# Altium schematic symbol library Synthiam.SchLib: 172 symbols (part 1 of 2)
Pins are listed as number, name and electrical type; pins without a type are passive.

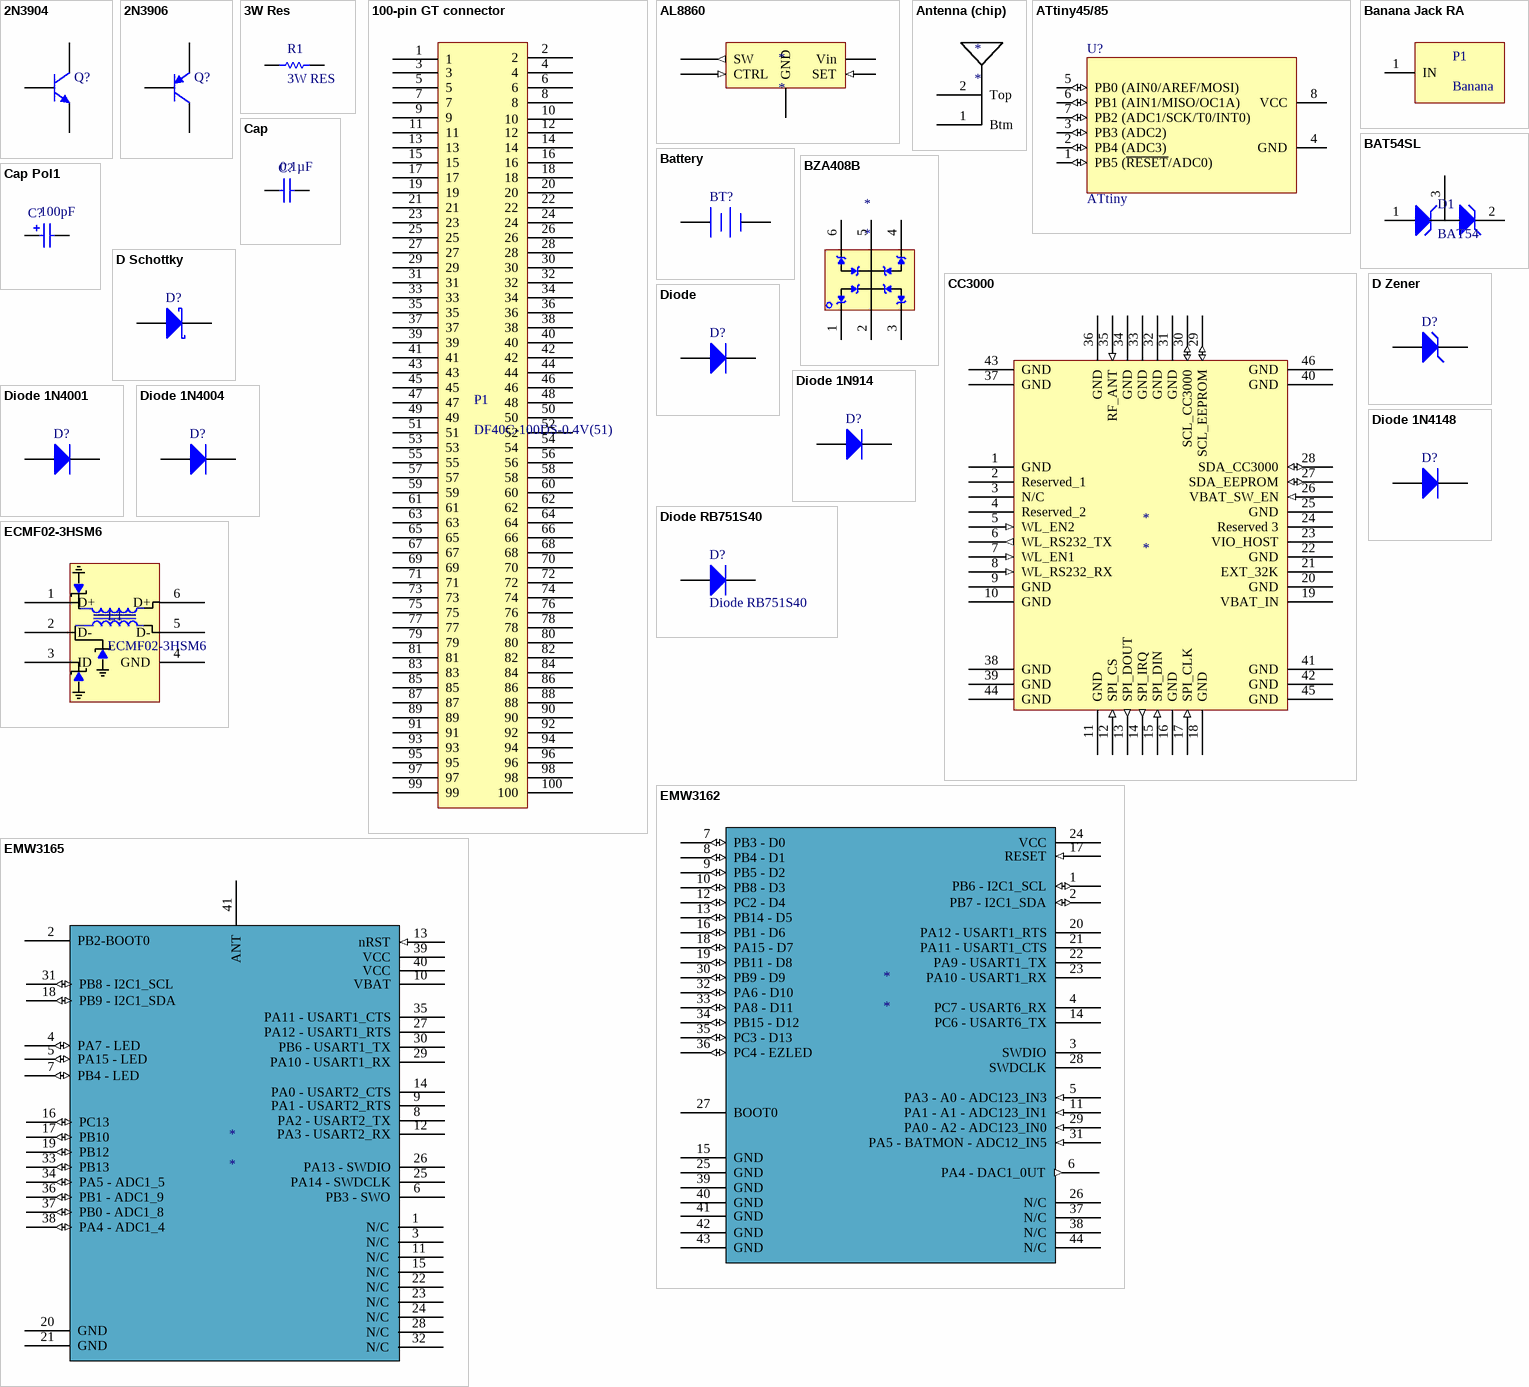
[diagram p0: symbols 2N3904 to EMW3165]

## 2N3904
designator Q?
NPN General Purpose Amplifier; Published: 8-Jun-2000; LatestRevisionDate: 15-Jan-2003; LatestRevisionNote: PCB Footprint 'BCY-W3/D4.7' replaced; DatasheetVersion: 1997; PackageVersion: Sep-1998; PackageReference: TO-92A; Publisher: Altium Limited; Code_JEDEC: TO-92A; ComponentLink1Description: Manufacturer Link; ComponentLink1URL: http://www.fairchildsemi.com/; ComponentLink2Description: Datasheet; ComponentLink2URL: http://www.fairchildsemi.com/ds/2N%2F2N3904.pdf
simulation model 2N3904 (NPN)
signal-integrity model 2N3904
footprint MMBT3904
footprint TO92 - 2N3904 (Footprint not found)
pins: 1 E, 2 B, 3 C

## 2N3906
designator Q?
PNP General Purpose Amplifier; Published: 8-Jun-2000; LatestRevisionDate: 15-Jan-2003; LatestRevisionNote: PCB Footprint 'BCY-W3/D4.7' replaced; DatasheetVersion: 1997; PackageVersion: Sep-1998; PackageReference: TO-92A; Publisher: Altium Limited; Code_JEDEC: TO-92A; ComponentLink1Description: Manufacturer Link; ComponentLink1URL: http://www.fairchildsemi.com/; ComponentLink2Description: Datasheet; ComponentLink2URL: http://www.fairchildsemi.com/ds/2N%2F2N3906.pdf
simulation model 2N3906 (PNP)
signal-integrity model 2N3906
footprint TO92 - 2N3906
pins: 1 E, 2 B, 3 C

## 3W Res
designator R1, comment 3W RES
footprint 3W RES
pins: 1, 2

## 100-pin GT connector
designator P1, comment DF40C-100DS-0.4V(51)
footprint 100-pin GT Connector
pins: 1, 2, 3, 4, 5, 6, 7, 8, 9, 10, 11, 12, 13, 14, 15, 16, 17, 18, 19, 20, 21, 22, 23, 24, 25, 26, 27, 28, 29, 30, 31, 32, 33, 34, 35, 36, 37, 38, 39, 40, 41, 42, 43, 44, 45, 46, 47, 48, 49, 50, 51, 52, 53, 54, 55, 56, 57, 58, 59, 60, 61, 62, 63, 64, 65, 66, 67, 68, 69, 70, 71, 72, 73, 74, 75, 76, 77, 78, 79, 80, 81, 82, 83, 84, 85, 86, 87, 88, 89, 90, 91, 92, 93, 94, 95, 96, 97, 98, 99, 100

## AL8860
designator *
footprint SOT-25 new
pins: 1 SET (in), 2 Vin (power), 3 GND (power), 4 CTRL (in), 5 SW (out)

## Antenna (chip)
designator *
footprint Antenna (Chip)
pins: 1 Btm, 2 Top

## ATtiny45/85
designator U?, comment ATtiny
8-Bit AVR Microcontroller with 1K Byte of Flash Memory; Published: 17-Sep-2003; DatasheetVersion: 1187E-AVR-06/02; PackageVersion: revB, Jan-2002; PackageReference: 8P3; Publisher: Altium Limited; PackageDescription: 8-Lead, 0.300" Wide Body, Plastic Dual In-Line Package (PDIP); Supplier 1: Digi-Key; Supplier Part Number 1: ATTINY15L-1PC-ND; Supplier 2: Mouser; Supplier Part Number 2: 556-ATTINY15L1PC; Code_JEDEC: MS-001-BA; ComponentLink1Description: Datasheet; ComponentLink1URL: http://www.atmel.com/dyn/resources/prod_documents/doc1187.pdf; ComponentLink2Description: Atmel.com Home; ComponentLink2URL: http://www.atmel.com
footprint DIP8
footprint SOIC-8
pins: 1 PB5 (~{RESET}/ADC0) (io), 2 PB4 (ADC3) (io), 3 PB3 (ADC2) (io), 4 GND (power), 5 PB0 (AIN0/AREF/MOSI) (io), 6 PB1 (AIN1/MISO/OC1A) (io), 7 PB2 (ADC1/SCK/T0/INT0) (io), 8 VCC (power)

## Banana Jack RA
designator P1, comment Banana
footprint Banana Jack RA
pins: 1 IN

## BAT54SL
designator D1, comment BAT54
footprint SOT-23 ALT
pins: 1, 2, 3

## Battery
designator BT?
Multicell Battery; Published: 24-Mar-1999; LatestRevisionDate: 17-Jul-2002; LatestRevisionNote: Re-released for DXP Platform.; PackageReference: BAT-2; Publisher: Altium Limited
footprint BAT-2 (Multicell Battery; 2 Leads)
pins: 1 +, 2 -

## BZA408B
designator *
footprint SOT-457
pins: 1, 2, 3, 4, 5, 6

## Cap
designator C?  value 0.1µF
Capacitor; Published: 8-Jun-2000; LatestRevisionDate: 17-Jul-2002; LatestRevisionNote: Re-released for DXP Platform.; PackageReference: RAD-0.3; Publisher: Altium Limited
footprint RAD-0.3 (Radial Cap, Thru-Hole; 2 Leads; 0.3 in Pin Spacing)
simulation model CAP (Capacitor)
signal-integrity model Cap
footprint 0805
footprint 0805 TIGHT
pins: 1, 2

## Cap Pol1
designator C?  value 100pF
Polarized Capacitor (Radial); Published: 8-Jun-2000; LatestRevisionDate: 17-Jul-2002; LatestRevisionNote: Re-released for DXP Platform.; PackageReference: RB7.6-15; Publisher: Altium Limited
footprint RB7.6-15 (Polarized Capacitor (Radial); 2 Leads)
simulation model CAP (Capacitor)
signal-integrity model Cap Pol
footprint Cap Alum (330uF or 220uF 6.3V SMD Aluminum Cap)
footprint Cap Alum LRG (1000uF or 1500uF SMD Aluminum Capacitor)
pins: 1, 2
1 alternate drawing of the same symbol

## CC3000
designator *
footprint CC3000 (Texas Instruments WiFi Module)
pins: 1 GND (power), 2 Reserved_1, 3 N/C, 4 Reserved_2 (power), 5 WL_EN2 (in), 6 WL_RS232_TX (out), 7 WL_EN1 (in), 8 WL_RS232_RX (in), 9 GND (power), 10 GND (power), 11 GND, 12 SPI_CS (in), 13 SPI_DOUT (out), 14 SPI_IRQ (out), 15 SPI_DIN (in), 16 GND, 17 SPI_CLK (in), 18 GND, 19 VBAT_IN (power), 20 GND, 21 EXT_32K, 22 GND (power), 23 VIO_HOST (power), 24 Reserved 3, 25 GND (power), 26 VBAT_SW_EN (in), 27 SDA_EEPROM (io), 28 SDA_CC3000 (io), 29 SCL_EEPROM (io), 30 SCL_CC3000 (io), 31 GND (power), 32 GND (power), 33 GND (power), 34 GND, 35 RF_ANT (in), 36 GND, 37 GND (power), 38 GND (power), 39 GND (power), 40 GND (power), 41 GND (power), 42 GND (power), 43 GND (power), 44 GND (power), 45 GND (power), 46 GND (power)

## D Schottky
designator D?
Schottky Diode; Published: 8-Jun-2000; LatestRevisionDate: 17-Jul-2002; LatestRevisionNote: Re-released for DXP Platform.; PackageReference: SMB; Publisher: Altium Limited; Code_JEDEC: DO-214-AA
footprint SMB (DO-214-AA/SMB; 2 C-Bend Leads; Body 5.3 x 3.6 mm, inc. leads (LxW))
simulation model SKYDIODE (Diode)
signal-integrity model D Schottky
pins: 1 A, 2 K

## D Zener
designator D?
Zener Diode; Published: 8-Jun-2000; LatestRevisionDate: 17-Jul-2002; LatestRevisionNote: Re-released for DXP Platform.; PackageReference: DIODE-0.7; Publisher: Altium Limited
footprint DIODE0.7
simulation model ZENER (Diode)
signal-integrity model D Zener
pins: 1 A, 2 K

## Diode
designator D?
Default Diode; Published: 8-Jun-2000; LatestRevisionDate: 17-Jul-2002; LatestRevisionNote: Re-released for DXP Platform.; PackageVersion: Sep-1996; PackageReference: SMC; Publisher: Altium Limited; Code_JEDEC: DO-214-AB
footprint SMC (DO-214-AB/SMC; 2 C-Bend Leads; Body 7.9 x 5.9 mm, inc. leads (LxW))
simulation model DIODE (Diode)
signal-integrity model Diode
pins: 1 A, 2 K

## Diode 1N914
designator D?
High Conductance Fast Diode; Published: 8-Jun-2000; LatestRevisionDate: 17-Jul-2002; LatestRevisionNote: Re-released for DXP Platform.; DatasheetVersion: 1997; PackageReference: DO-35; Publisher: Altium Limited; Code_JEDEC: DO-204-AH; ComponentLink1Description: Manufacturer Link; ComponentLink1URL: http://www.fairchildsemi.com/; ComponentLink2Description: Datasheet; ComponentLink2URL: http://www.fairchildsemi.com/ds/1N%2F1N4448.pdf
simulation model 1N914 (DIODE)
signal-integrity model 1N914
footprint DO-35 (Diode, Axial; Body 3.8 x 1.9 mm (LxDia. max), Lead Dia. 0.53 mm (max))
pins: 1 A, 2 K

## Diode 1N4001
designator D?
1 Amp General Purpose Rectifier; Published: 8-Jun-2000; LatestRevisionDate: 17-Jul-2002; LatestRevisionNote: Re-released for DXP Platform.; DatasheetVersion: 1998; PackageVersion: Aug-1999; PackageReference: DO-41; Publisher: Altium Limited; Code_JEDEC: DO-204-AL; ComponentLink1Description: Manufacturer Link; ComponentLink1URL: http://www.fairchildsemi.com/; ComponentLink2Description: Datasheet; ComponentLink2URL: http://www.fairchildsemi.com/ds/1N%2F1N4001.pdf
simulation model 1N4001 (DIODE)
signal-integrity model 1N4001
footprint DO-41 (Diode, Axial; Body 5.2 x 2.7 mm (LxDia. max), Lead Dia. 0.86 mm (max))
pins: 1 A, 2 K

## Diode 1N4004
designator D?
1 Amp General Purpose Rectifier; Published: 8-Jun-2000; LatestRevisionDate: 17-Jul-2002; LatestRevisionNote: Re-released for DXP Platform.; DatasheetVersion: 1998; PackageVersion: Aug-1999; PackageReference: DO-41; Publisher: Altium Limited; Code_JEDEC: DO-204-AL; ComponentLink1Description: Manufacturer Link; ComponentLink1URL: http://www.fairchildsemi.com/; ComponentLink2Description: Datasheet; ComponentLink2URL: http://www.fairchildsemi.com/ds/1N%2F1N4001.pdf
simulation model 1N4004 (DIODE)
signal-integrity model 1N4004
footprint DO-41 (Diode, Axial; Body 5.2 x 2.7 mm (LxDia. max), Lead Dia. 0.86 mm (max))
pins: 1 A, 2 K

## Diode 1N4148
designator D?
High Conductance Fast Diode; Published: 8-Jun-2000; LatestRevisionDate: 17-Jul-2002; LatestRevisionNote: Re-released for DXP Platform.; DatasheetVersion: 1997; PackageReference: DO-35; Publisher: Altium Limited; Code_JEDEC: DO-204-AH; ComponentLink1Description: Manufacturer Link; ComponentLink1URL: http://www.fairchildsemi.com/; ComponentLink2Description: Datasheet; ComponentLink2URL: http://www.fairchildsemi.com/ds/1N%2F1N4148.pdf
simulation model 1N4148 (DIODE)
signal-integrity model 1N4148
footprint DO-35 (Diode, Axial; Body 3.8 x 1.9 mm (LxDia. max), Lead Dia. 0.53 mm (max))
pins: 1 A, 2 K

## Diode RB751S40
designator D?
Schottky Barrier Diode; Published: 8-Jun-2000; DatasheetVersion: 1997; PackageReference: SOD-523F; Publisher: Altium Limited; ComponentLink1Description: Manufacturer Link; ComponentLink1URL: http://www.fairchildsemi.com/; ComponentLink2Description: Datasheet; ComponentLink2URL: http://www.fairchildsemi.com/ds/RB%2FRB751S40.pdf
signal-integrity model 1N4148
footprint SOD523F (Diode)
pins: 1 A, 2 K

## ECMF02-3HSM6
designator L1
footprint ECMF02-3HSM6
pins: 1 D+, 2 D-, 3 ID, 4 GND, 5 D-, 6 D+

## EMW3162
designator *
footprint EMW3162
pins: 1 PB6 - I2C1_SCL (io), 2 PB7 - I2C1_SDA (io), 3 SWDIO, 4 PC7 - USART6_RX, 5 PA3 - A0 - ADC123_IN3 (in), 6 PA4 - DAC1_0UT (out), 7 PB3 - D0 (io), 8 PB4 - D1 (io), 9 PB5 - D2 (io), 10 PB8 - D3 (io), 11 PA1 - A1 - ADC123_IN1 (in), 12 PC2 - D4 (io), 13 PB14 - D5 (io), 14 PC6 - USART6_TX, 15 GND (power), 16 PB1 - D6 (io), 17 RESET (in), 18 PA15 - D7 (io), 19 PB11 - D8 (io), 20 PA12 - USART1_RTS, 21 PA11 - USART1_CTS, 22 PA9 - USART1_TX, 23 PA10 - USART1_RX, 24 VCC (power), 25 GND (power), 26 N/C, 27 BOOT0, 28 SWDCLK, 29 PA0 - A2 - ADC123_IN0 (in), 30 PB9 - D9 (io), 31 PA5 - BATMON - ADC12_IN5 (in), 32 PA6 - D10 (io), 33 PA8 - D11 (io), 34 PB15 - D12 (io), 35 PC3 - D13 (io), 36 PC4 - EZLED (io), 37 N/C, 38 N/C, 39 GND (power), 40 GND (power), 41 GND (power), 42 GND (power), 43 GND (power), 44 N/C

## EMW3165
designator *
footprint EMW3165
pins: 1 N/C, 2 PB2-BOOT0, 3 N/C, 4 PA7 - LED (io), 5 PA15 - LED (io), 6 PB3 - SWO, 7 PB4 - LED (io), 8 PA2 - USART2_TX, 9 PA1 - USART2_RTS, 10 VBAT (power), 11 N/C, 12 PA3 - USART2_RX, 13 nRST (in), 14 PA0 - USART2_CTS, 15 N/C, 16 PC13 (io), 17 PB10 (io), 18 PB9 - I2C1_SDA (io), 19 PB12 (io), 20 GND (power), 21 GND (power), 22 N/C (power), 23 N/C (power), 24 N/C (power), 25 PA14 - SWDCLK, 26 PA13 - SWDIO, 27 PA12 - USART1_RTS, 28 N/C (power), 29 PA10 - USART1_RX, 30 PB6 - USART1_TX, 31 PB8 - I2C1_SCL (io), 32 N/C (power), 33 PB13 (io), 34 PA5 - ADC1_5 (io), 35 PA11 - USART1_CTS, 36 PB1 - ADC1_9 (io), 37 PB0 - ADC1_8 (io), 38 PA4 - ADC1_4 (io), 39 VCC (power), 40 VCC (power), 41 ANT

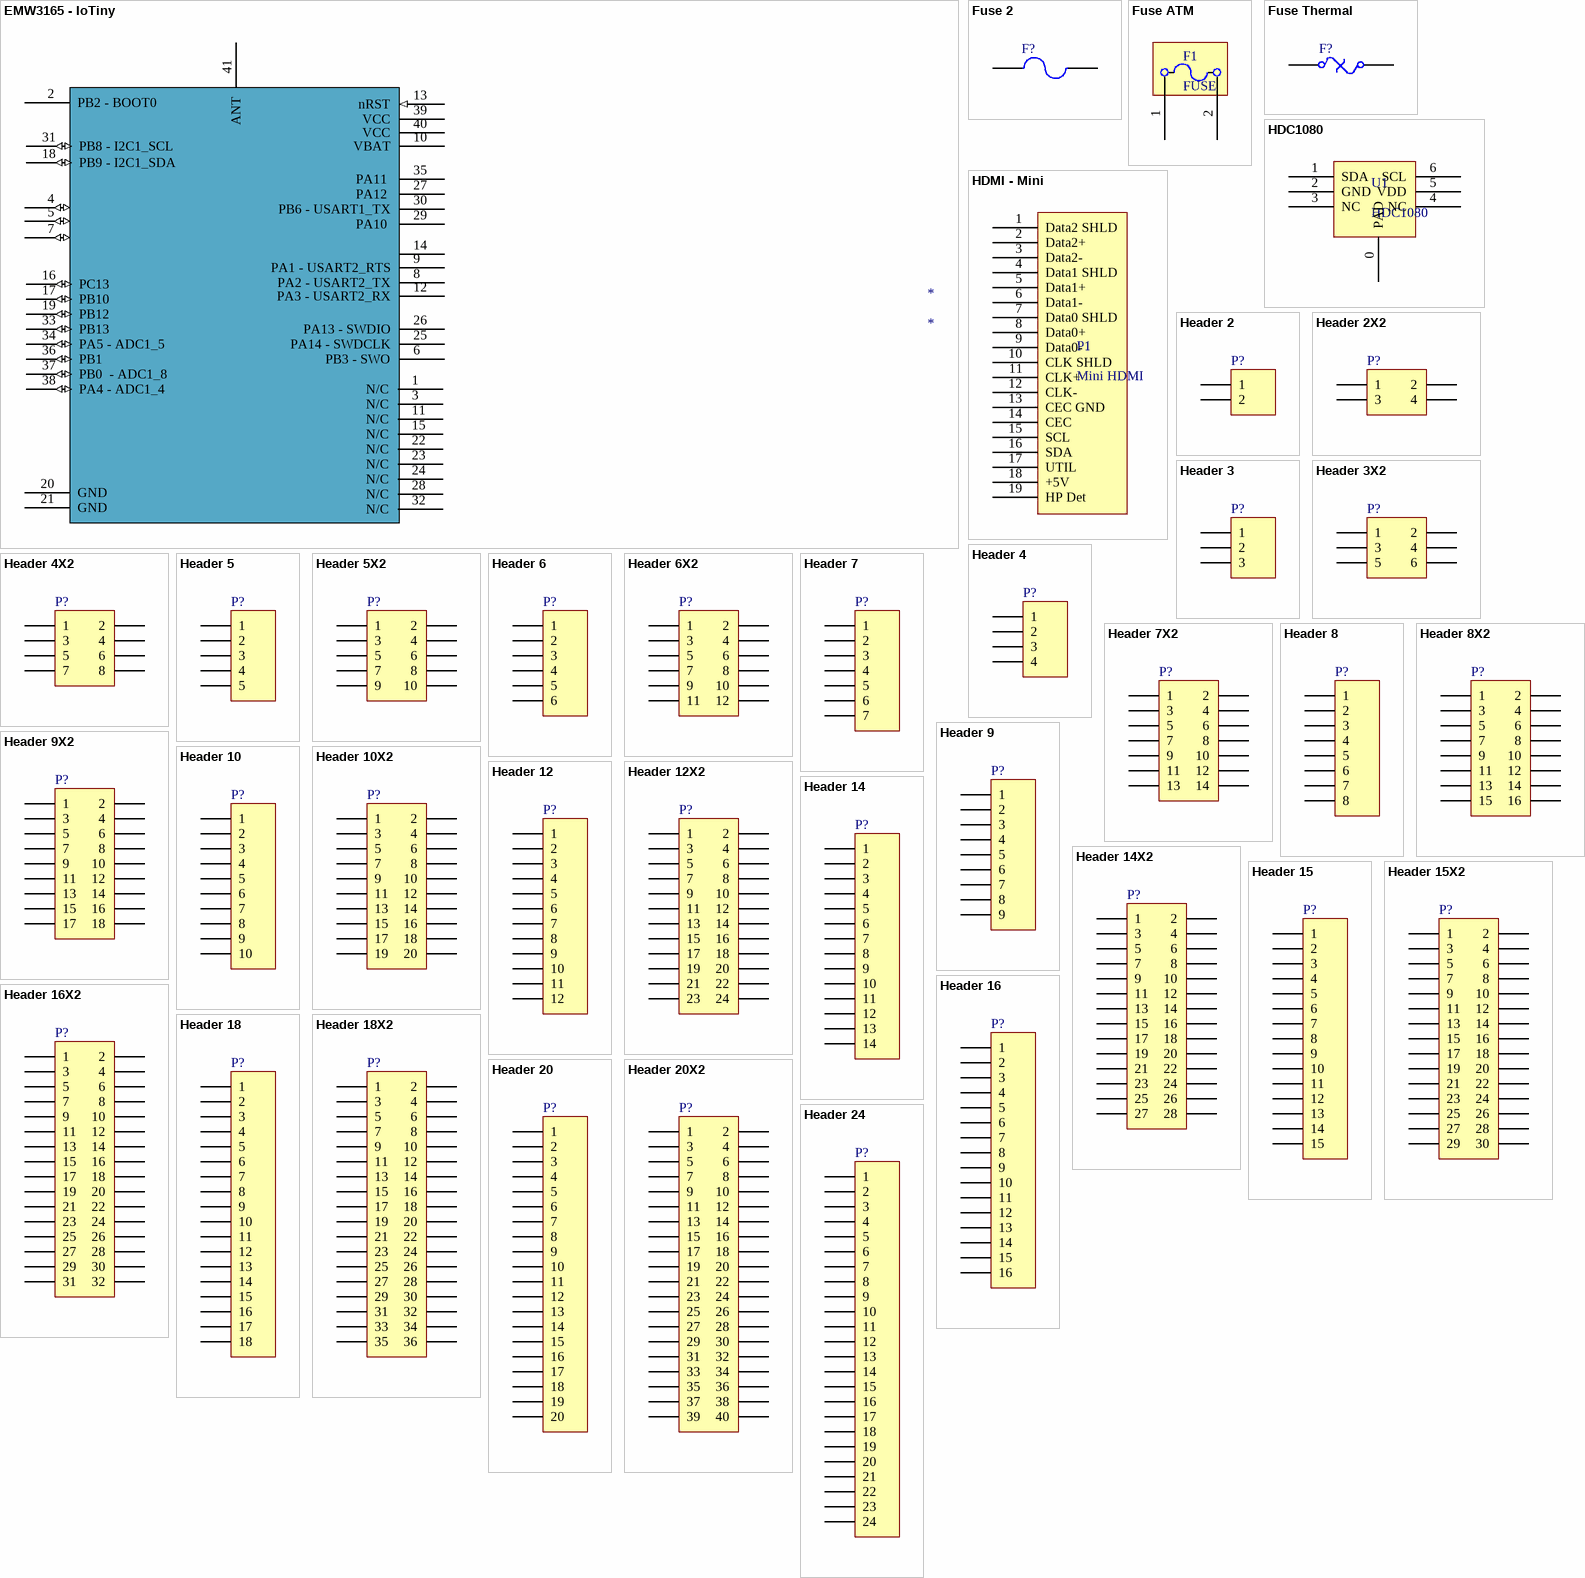
[diagram p1: symbols EMW3165 - IoTiny to Header 24]

## EMW3165 - IoTiny
designator *
footprint EMW3165
pins: 1 N/C, 2 PB2 - BOOT0, 3 N/C, 4 (io), 5 (io), 6 PB3 - SWO, 7 (io), 8 PA2 - USART2_TX, 9 PA1 - USART2_RTS, 10 VBAT (power), 11 N/C, 12 PA3 - USART2_RX, 13 nRST (in), 14, 15 N/C, 16 PC13  (io), 17 PB10 (io), 18 PB9 - I2C1_SDA (io), 19 PB12 (io), 20 GND (power), 21 GND (power), 22 N/C (power), 23 N/C (power), 24 N/C (power), 25 PA14 - SWDCLK, 26 PA13 - SWDIO, 27 PA12 , 28 N/C (power), 29 PA10 , 30 PB6 - USART1_TX, 31 PB8 - I2C1_SCL (io), 32 N/C (power), 33 PB13 (io), 34 PA5 - ADC1_5 (io), 35 PA11 , 36 PB1 (io), 37 PB0  - ADC1_8 (io), 38 PA4 - ADC1_4 (io), 39 VCC (power), 40 VCC (power), 41 ANT

## Fuse 2
designator F?
Fuse; Published: 8-Jun-2000; LatestRevisionDate: 17-Jul-2002; LatestRevisionNote: Re-released for DXP Platform.; PackageReference: PIN-W2/E2.8; Publisher: Altium Limited
footprint PIN-W2/E2.8 (Thru-Hole; 2 Leads)
simulation model FUSE (Spice Subcircuit)
pins: 1, 2

## Fuse ATM
designator F1, comment FUSE
footprint FUSE ATM
pins: 1, 2

## Fuse Thermal
designator F?
Thermal Fuse; Published: 24-Mar-1999; LatestRevisionDate: 17-Jul-2002; LatestRevisionNote: Re-released for DXP Platform.; PackageReference: PIN-W2/E2.8; Publisher: Altium Limited
footprint PIN-W2/E2.8 (Thermal Fuse; 2 Leads)
pins: 1, 2

## HDC1080
designator U1
footprint HDC1080
pins: 0 PAD, 1 SDA, 2 GND, 3 NC, 4 NC, 5 VDD, 6 SCL

## HDMI - Mini
designator P1, comment Mini HDMI
footprint HDMI - Mini
pins: 1 Data2 SHLD, 2 Data2+, 3 Data2-, 4 Data1 SHLD, 5 Data1+, 6 Data1-, 7 Data0 SHLD, 8 Data0+, 9 Data0-, 10 CLK SHLD, 11 CLK+, 12 CLK-, 13 CEC GND, 14 CEC, 15 SCL, 16 SDA, 17 UTIL, 18 +5V, 19 HP Det

## Header 2
designator P?
Header, 2-Pin; LatestRevisionDate: 17-Jul-2002; LatestRevisionNote: Re-released for DXP Platform.; Publisher: Altium Limited
footprint HDR1X2 (Connector; Header; 2 Position)
signal-integrity model Connector
footprint MICRO DEANS (Connector; Header; 2 Position)
pins: 1, 2

## Header 2X2
designator P?
Header, 2-Pin, Dual row; LatestRevisionDate: 17-Jul-2002; LatestRevisionNote: Re-released for DXP Platform.; Publisher: Altium Limited
footprint HDR2X2 (Connector; Header; 2x2 Position)
signal-integrity model Connector
pins: 1, 2, 3, 4

## Header 3
designator P?
Header, 3-Pin; LatestRevisionDate: 17-Jul-2002; LatestRevisionNote: Re-released for DXP Platform.; Publisher: Altium Limited
footprint HDR1X3 (Connector; Header; 3 Position)
signal-integrity model Connector
pins: 1, 2, 3

## Header 3X2
designator P?
Header, 3-Pin, Dual row; LatestRevisionDate: 17-Jul-2002; LatestRevisionNote: Re-released for DXP Platform.; Publisher: Altium Limited
footprint HDR2X3 (Connector; Header; 3x2 Position)
signal-integrity model Connector
pins: 1, 2, 3, 4, 5, 6

## Header 4
designator P?
Header, 4-Pin; LatestRevisionDate: 17-Jul-2002; LatestRevisionNote: Re-released for DXP Platform.; Publisher: Altium Limited
footprint HDR1X4 (Connector; Header; 4 Position)
signal-integrity model Connector
pins: 1, 2, 3, 4

## Header 4X2
designator P?
Header, 4-Pin, Dual row; LatestRevisionDate: 17-Jul-2002; LatestRevisionNote: Re-released for DXP Platform.; Publisher: Altium Limited
footprint HDR2X4 (Connector; Header; 4x2 Position)
signal-integrity model Connector
pins: 1, 2, 3, 4, 5, 6, 7, 8

## Header 5
designator P?
Header, 5-Pin; LatestRevisionDate: 17-Jul-2002; LatestRevisionNote: Re-released for DXP Platform.; Publisher: Altium Limited
footprint HDR1X5 (Connector; Header; 5 Position)
signal-integrity model Connector
pins: 1, 2, 3, 4, 5

## Header 5X2
designator P?
Header, 5-Pin, Dual row; LatestRevisionDate: 17-Jul-2002; LatestRevisionNote: Re-released for DXP Platform.; Publisher: Altium Limited
footprint HDR2X5 (Connector; Header; 5x2 Position)
signal-integrity model Connector
pins: 1, 2, 3, 4, 5, 6, 7, 8, 9, 10

## Header 6
designator P?
Header, 6-Pin; LatestRevisionDate: 17-Jul-2002; LatestRevisionNote: Re-released for DXP Platform.; Publisher: Altium Limited
footprint HDR1X6 (Connector; Header; 6 Position)
signal-integrity model Connector
pins: 1, 2, 3, 4, 5, 6

## Header 6X2
designator P?
Header, 6-Pin, Dual row; LatestRevisionDate: 17-Jul-2002; LatestRevisionNote: Re-released for DXP Platform.; Publisher: Altium Limited
footprint HDR2X6 (Connector; Header; 6x2 Position)
signal-integrity model Connector
pins: 1, 2, 3, 4, 5, 6, 7, 8, 9, 10, 11, 12

## Header 7
designator P?
Header, 7-Pin; LatestRevisionDate: 17-Jul-2002; LatestRevisionNote: Re-released for DXP Platform.; Publisher: Altium Limited
footprint HDR1X7 (Connector; Header; 7 Position)
signal-integrity model Connector
pins: 1, 2, 3, 4, 5, 6, 7

## Header 7X2
designator P?
Header, 7-Pin, Dual row; LatestRevisionDate: 17-Jul-2002; LatestRevisionNote: Re-released for DXP Platform.; Publisher: Altium Limited
footprint HDR2X7 (Connector; Header; 7x2 Position)
signal-integrity model Connector
pins: 1, 2, 3, 4, 5, 6, 7, 8, 9, 10, 11, 12, 13, 14

## Header 8
designator P?
Header, 8-Pin; LatestRevisionDate: 17-Jul-2002; LatestRevisionNote: Re-released for DXP Platform.; Publisher: Altium Limited
footprint HDR1X8 (Connector; Header; 8 Position)
signal-integrity model Connector
pins: 1, 2, 3, 4, 5, 6, 7, 8

## Header 8X2
designator P?
Header, 8-Pin, Dual row; LatestRevisionDate: 17-Jul-2002; LatestRevisionNote: Re-released for DXP Platform.; Publisher: Altium Limited
footprint HDR2X8 (Connector; Header; 8x2 Position)
signal-integrity model Connector
pins: 1, 2, 3, 4, 5, 6, 7, 8, 9, 10, 11, 12, 13, 14, 15, 16

## Header 9
designator P?
Header, 9-Pin; LatestRevisionDate: 17-Jul-2002; LatestRevisionNote: Re-released for DXP Platform.; Publisher: Altium Limited
signal-integrity model Connector
footprint HDR1X9 (Connector; Header; 9 Position)
pins: 1, 2, 3, 4, 5, 6, 7, 8, 9

## Header 9X2
designator P?
Header, 9-Pin, Dual row; LatestRevisionDate: 17-Jul-2002; LatestRevisionNote: Re-released for DXP Platform.; Publisher: Altium Limited
footprint HDR2X9 (Connector; Header; 9x2 Position)
signal-integrity model Connector
pins: 1, 2, 3, 4, 5, 6, 7, 8, 9, 10, 11, 12, 13, 14, 15, 16, 17, 18

## Header 10
designator P?
Header, 10-Pin; LatestRevisionDate: 17-Jul-2002; LatestRevisionNote: Re-released for DXP Platform.; Publisher: Altium Limited
footprint HDR1X10 (Connector; Header; 10 Position)
signal-integrity model Connector
pins: 1, 2, 3, 4, 5, 6, 7, 8, 9, 10

## Header 10X2
designator P?
Header, 10-Pin, Dual row; LatestRevisionDate: 17-Jul-2002; LatestRevisionNote: Re-released for DXP Platform.; Publisher: Altium Limited
signal-integrity model Connector
footprint HDR2X10 (Connector; Header; 10x2 Position)
pins: 1, 2, 3, 4, 5, 6, 7, 8, 9, 10, 11, 12, 13, 14, 15, 16, 17, 18, 19, 20

## Header 12
designator P?
Header, 12-Pin; LatestRevisionDate: 17-Jul-2002; LatestRevisionNote: Re-released for DXP Platform.; Publisher: Altium Limited
footprint HDR1X12 (Connector; Header; 12 Position)
signal-integrity model Connector
pins: 1, 2, 3, 4, 5, 6, 7, 8, 9, 10, 11, 12

## Header 12X2
designator P?
Header, 12-Pin, Dual row; LatestRevisionDate: 17-Jul-2002; LatestRevisionNote: Re-released for DXP Platform.; Publisher: Altium Limited
footprint HDR2X12 (Connector; Header; 12x2 Position)
signal-integrity model Connector
pins: 1, 2, 3, 4, 5, 6, 7, 8, 9, 10, 11, 12, 13, 14, 15, 16, 17, 18, 19, 20, 21, 22, 23, 24

## Header 14
designator P?
Header, 14-Pin; LatestRevisionDate: 17-Jul-2002; LatestRevisionNote: Re-released for DXP Platform.; Publisher: Altium Limited
footprint HDR1X14 (Connector; Header; 14 Position)
signal-integrity model Connector
pins: 1, 2, 3, 4, 5, 6, 7, 8, 9, 10, 11, 12, 13, 14

## Header 14X2
designator P?
Header, 14-Pin, Dual row; LatestRevisionDate: 17-Jul-2002; LatestRevisionNote: Re-released for DXP Platform.; Publisher: Altium Limited
footprint HDR2X14 (Connector; Header; 14x2 Position)
signal-integrity model Connector
pins: 1, 2, 3, 4, 5, 6, 7, 8, 9, 10, 11, 12, 13, 14, 15, 16, 17, 18, 19, 20, 21, 22, 23, 24, 25, 26, 27, 28

## Header 15
designator P?
Header, 15-Pin; LatestRevisionDate: 17-Jul-2002; LatestRevisionNote: Re-released for DXP Platform.; Publisher: Altium Limited
footprint HDR1X15 (Connector; Header; 15 Position)
signal-integrity model Connector
pins: 1, 2, 3, 4, 5, 6, 7, 8, 9, 10, 11, 12, 13, 14, 15

## Header 15X2
designator P?
Header, 15-Pin, Dual row; LatestRevisionDate: 17-Jul-2002; LatestRevisionNote: Re-released for DXP Platform.; Publisher: Altium Limited
footprint HDR2X15 (Connector; Header; 15x2 Position)
signal-integrity model Connector
pins: 1, 2, 3, 4, 5, 6, 7, 8, 9, 10, 11, 12, 13, 14, 15, 16, 17, 18, 19, 20, 21, 22, 23, 24, 25, 26, 27, 28, 29, 30

## Header 16
designator P?
Header, 16-Pin; LatestRevisionDate: 17-Jul-2002; LatestRevisionNote: Re-released for DXP Platform.; Publisher: Altium Limited
footprint HDR1X16 (Connector; Header; 16 Position)
signal-integrity model Connector
pins: 1, 2, 3, 4, 5, 6, 7, 8, 9, 10, 11, 12, 13, 14, 15, 16

## Header 16X2
designator P?
Header, 16-Pin, Dual row; LatestRevisionDate: 17-Jul-2002; LatestRevisionNote: Re-released for DXP Platform.; Publisher: Altium Limited
footprint HDR2X16 (Connector; Header; 16x2 Position)
signal-integrity model Connector
pins: 1, 2, 3, 4, 5, 6, 7, 8, 9, 10, 11, 12, 13, 14, 15, 16, 17, 18, 19, 20, 21, 22, 23, 24, 25, 26, 27, 28, 29, 30, 31, 32

## Header 18
designator P?
Header, 18-Pin; LatestRevisionDate: 17-Jul-2002; LatestRevisionNote: Re-released for DXP Platform.; Publisher: Altium Limited
footprint HDR1X18 (Connector; Header; 18 Position)
signal-integrity model Connector
pins: 1, 2, 3, 4, 5, 6, 7, 8, 9, 10, 11, 12, 13, 14, 15, 16, 17, 18

## Header 18X2
designator P?
Header, 18-Pin, Dual row; LatestRevisionDate: 17-Jul-2002; LatestRevisionNote: Re-released for DXP Platform.; Publisher: Altium Limited
footprint HDR2X18 (Connector; Header; 18x2 Position)
signal-integrity model Connector
pins: 1, 2, 3, 4, 5, 6, 7, 8, 9, 10, 11, 12, 13, 14, 15, 16, 17, 18, 19, 20, 21, 22, 23, 24, 25, 26, 27, 28, 29, 30, 31, 32, 33, 34, 35, 36

## Header 20
designator P?
Header, 20-Pin; LatestRevisionDate: 17-Jul-2002; LatestRevisionNote: Re-released for DXP Platform.; Publisher: Altium Limited
footprint HDR1X20 (Connector; Header; 20 Position)
signal-integrity model Connector
pins: 1, 2, 3, 4, 5, 6, 7, 8, 9, 10, 11, 12, 13, 14, 15, 16, 17, 18, 19, 20

## Header 20X2
designator P?
Header, 20-Pin, Dual row; LatestRevisionDate: 17-Jul-2002; LatestRevisionNote: Re-released for DXP Platform.; Publisher: Altium Limited
footprint HDR2X20 (Connector; Header; 20x2 Position)
signal-integrity model Connector
pins: 1, 2, 3, 4, 5, 6, 7, 8, 9, 10, 11, 12, 13, 14, 15, 16, 17, 18, 19, 20, 21, 22, 23, 24, 25, 26, 27, 28, 29, 30, 31, 32, 33, 34, 35, 36, 37, 38, 39, 40

## Header 24
designator P?
Header, 24-Pin; LatestRevisionDate: 17-Jul-2002; LatestRevisionNote: Re-released for DXP Platform.; Publisher: Altium Limited
footprint HDR1X24 (Connector; Header; 24 Position)
signal-integrity model Connector
footprint FPC Connector 24pin
pins: 1, 2, 3, 4, 5, 6, 7, 8, 9, 10, 11, 12, 13, 14, 15, 16, 17, 18, 19, 20, 21, 22, 23, 24

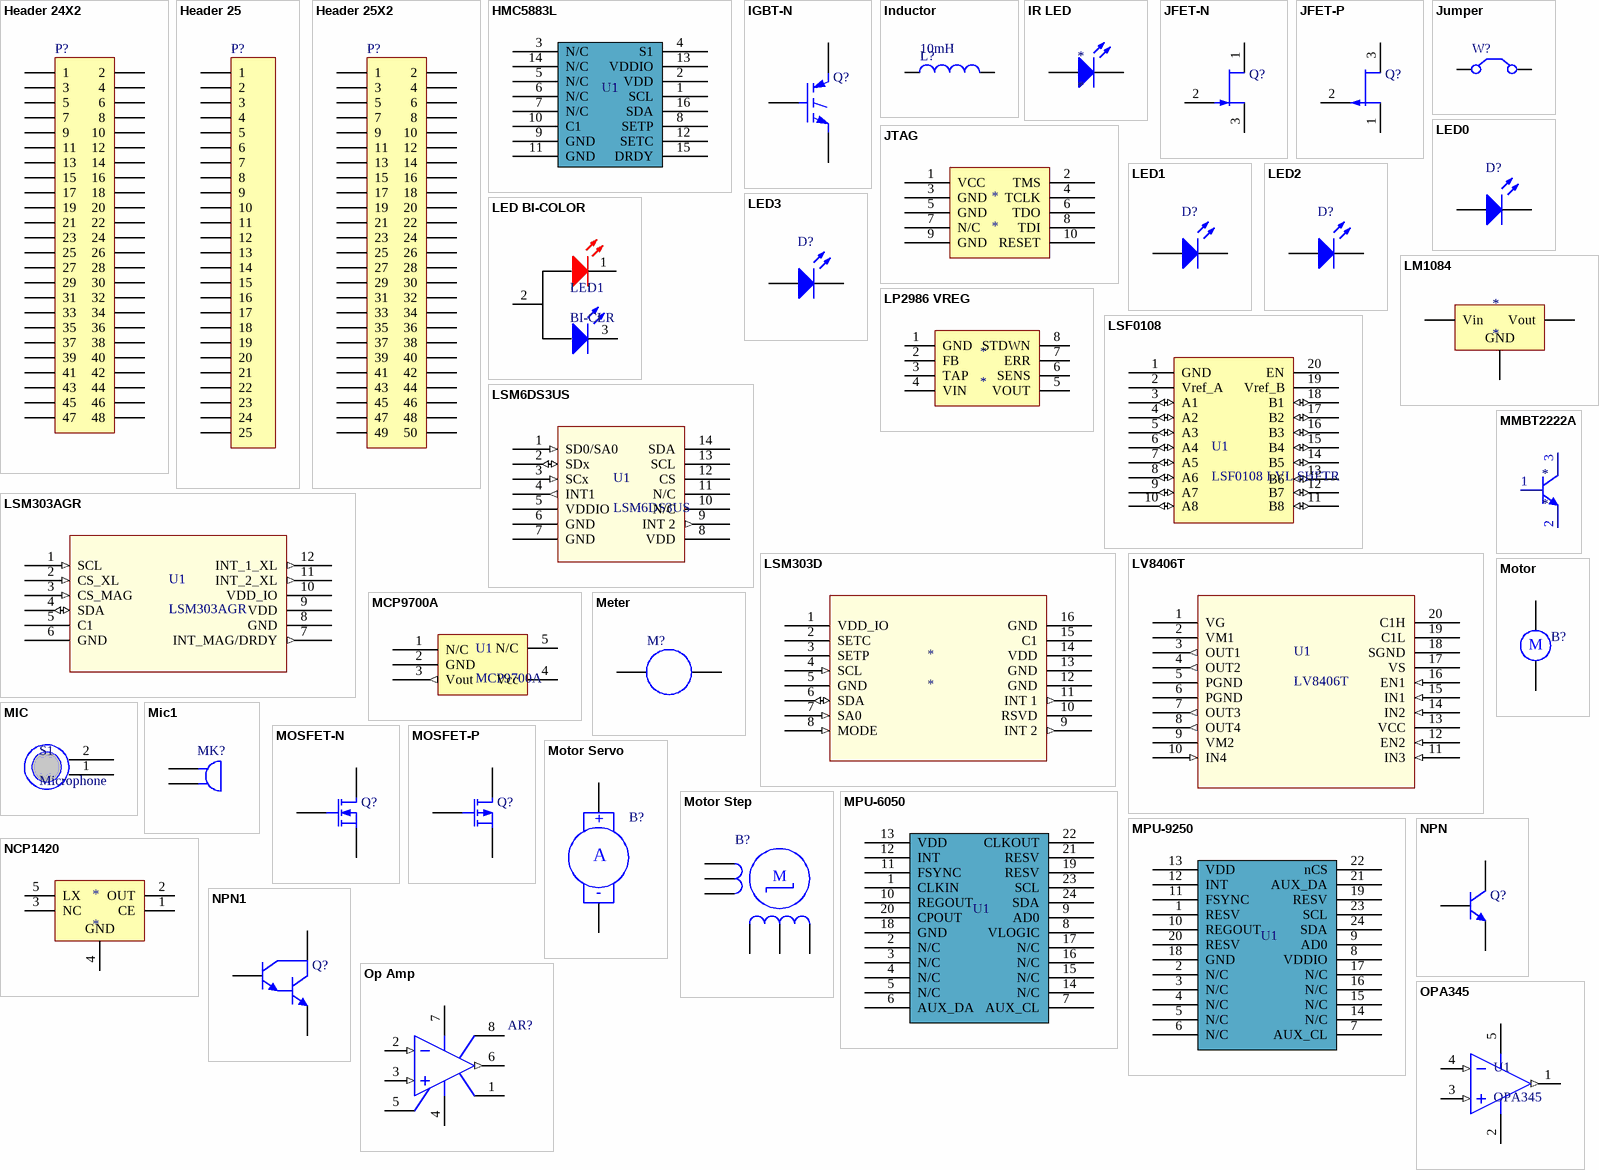
[diagram p2: symbols Header 24X2 to OPA345]

## Header 24X2
designator P?
Header, 24-Pin, Dual row; LatestRevisionDate: 17-Jul-2002; LatestRevisionNote: Re-released for DXP Platform.; Publisher: Altium Limited
footprint HDR2X24 (Connector; Header; 24x2 Position)
signal-integrity model Connector
pins: 1, 2, 3, 4, 5, 6, 7, 8, 9, 10, 11, 12, 13, 14, 15, 16, 17, 18, 19, 20, 21, 22, 23, 24, 25, 26, 27, 28, 29, 30, 31, 32, 33, 34, 35, 36, 37, 38, 39, 40, 41, 42, 43, 44, 45, 46, 47, 48

## Header 25
designator P?
Header, 25-Pin; LatestRevisionDate: 17-Jul-2002; LatestRevisionNote: Re-released for DXP Platform.; Publisher: Altium Limited
footprint HDR1X25 (Connector; Header; 25 Position)
signal-integrity model Connector
pins: 1, 2, 3, 4, 5, 6, 7, 8, 9, 10, 11, 12, 13, 14, 15, 16, 17, 18, 19, 20, 21, 22, 23, 24, 25

## Header 25X2
designator P?
Header, 25-Pin, Dual row; LatestRevisionDate: 17-Jul-2002; LatestRevisionNote: Re-released for DXP Platform.; Publisher: Altium Limited
footprint HDR2X25 (Connector; Header; 25x2 Position)
signal-integrity model Connector
pins: 1, 2, 3, 4, 5, 6, 7, 8, 9, 10, 11, 12, 13, 14, 15, 16, 17, 18, 19, 20, 21, 22, 23, 24, 25, 26, 27, 28, 29, 30, 31, 32, 33, 34, 35, 36, 37, 38, 39, 40, 41, 42, 43, 44, 45, 46, 47, 48, 49, 50

## HMC5883L
designator U1  (value not drawn)
HMC5883L Compass
footprint HMC5883L (HMC5883L Compass)
pins: 1 SCL, 2 VDD, 3 N/C, 4 S1, 5 N/C, 6 N/C, 7 N/C, 8 SETP, 9 GND, 10 C1, 11 GND, 12 SETC, 13 VDDIO, 14 N/C, 15 DRDY, 16 SDA

## IGBT-N
designator Q?
Insulated Gate Bipolar Transistor (N-Channel); Published: 8-Jun-2000; LatestRevisionDate: 17-Jul-2002; LatestRevisionNote: Re-released for DXP Platform.; DatasheetVersion: PD-9.684A; PackageReference: TO-247; Publisher: Altium Limited; Code_JEDEC: TO-247-AC; ComponentLink1Description: Manufacturer Link; ComponentLink1URL: http://www.irf.com/
simulation model IRGPC40U (Spice Subcircuit)
footprint TO-247 (SIP with Mounting Hole; 3 Leads; Body 20 x 15.6 x 5 mm (typ); Pitch 5.45 mm)
pins: 1 G, 2 C, 3 E

## Inductor
designator L?  value 10mH
Inductor; Code_IEC: 1005; Published: 8-Jun-2000; LatestRevisionDate: 29-May-2009; LatestRevisionNote: IPC-7351 Footprint Added.; PackageReference: 0402-A; Publisher: Altium Limited; PackageDescription: Chip Inductor; Code_JEITA: 0402
footprint 0402-A (Chip Inductor, Body 1.0x0.5mm, IPC High Density)
footprint INDC1608L (Chip Inductor, Body 1.6x0.8mm, IPC High Density)
footprint 2029 (Chip Inductor, Body 2.0x1.2mm, IPC High Density)
footprint 0603 (Chip Inductor, Body 0.6x0.3mm, IPC High Density)
footprint INDC3216 (Chip Inductor, Body 3.2x1.6mm, IPC High Density)
footprint INDC4532 (Chip Inductor, Body 4.5x3.2mm, IPC High Density)
simulation model INDUCTOR (Inductor)
signal-integrity model Inductor
pins: 1, 2

## IR LED
designator *
footprint IR LED
pins: 1 A, 2 K

## JFET-N
designator Q?
N-Channel JFET; Published: 8-Jun-2000; LatestRevisionDate: 17-Jul-2002; LatestRevisionNote: Re-released for DXP Platform.; PackageReference: TO-254-AA; Publisher: Altium Limited; Code_JEDEC: TO-254-AA
simulation model NJFET
footprint TO-254-AA (TO, Thru-Hole, Vertical, Heatsink Mounted; 3 In-Line Leads; Pitch 3.81 mm)
pins: 1 D, 2 G, 3 S

## JFET-P
designator Q?
P-Channel JFET; Published: 8-Jun-2000; LatestRevisionDate: 17-Jul-2002; LatestRevisionNote: Re-released for DXP Platform.; PackageReference: TO-18A; Publisher: Altium Limited
simulation model PJFET
footprint TO-18A (SC-89; 3 Flat Leads; Body 1.6 x 1.6 x 0.7 mm, inc leads (LxWxH typ))
pins: 1 D, 2 G, 3 S

## JTAG
designator *
footprint JTAG (Connector; Header; 5x2 Position)
pins: 1 VCC, 2 TMS, 3 GND, 4 TCLK, 5 GND, 6 TDO, 7 N/C, 8 TDI, 9 GND, 10 RESET

## Jumper
designator W?
Jumper Wire; Published: 24-Mar-1999; LatestRevisionDate: 17-Jul-2002; LatestRevisionNote: Re-released for DXP Platform.; PackageReference: RAD-0.2; Publisher: Altium Limited
footprint JMPR_PAD
pins: 1 C1, 2 C2

## LED0
designator D?  (value not drawn)
Typical LED; LatestRevisionDate: March 1 2010; LatestRevisionNote: Mech Layer 1 removed.; PackageReference: LED-0; FootprintSource: http://optodatabook.liteon.com/DataBookFiles/8343/LTST-C170CKT.pdf
footprint LED-0 (Typical INFRARED GaAs LED; 2 Leads)
simulation model LED0 (Diode)
footprint LED0.2
footprint 0805 LED (SMT LED; 2 Flat Leads; Lite-Oon LTST-C170CKT)
footprint LED (T 1-3/4) (Standard LED)
pins: 1 A, 2 K

## LED1
designator D?
Typical RED GaAs LED; Published: 8-Jun-2000; LatestRevisionDate: 08-Jul-2005; LatestRevisionNote: Mech Layer 1 removed.; PackageReference: LED-1; Publisher: Altium Limited
footprint LED-1 (Typical RED GaAs LED; 2 Leads)
simulation model LED1 (Diode)
pins: 1 A, 2 K

## LED2
designator D?
Typical RED, GREEN, YELLOW, AMBER GaAs LED; Published: 8-Jun-2000; LatestRevisionDate: 17-Jul-2002; LatestRevisionNote: Re-released for DXP Platform.; PackageVersion: Feb-2002; PackageReference: 3.2X1.6X1.1; Publisher: Altium Limited
simulation model LED2 (Diode)
footprint 3.2X1.6X1.1 (SMT LED; 2 Flat Leads)
pins: 1 A, 2 K

## LED3
designator D?
Typical BLUE SiC LED; Published: 8-Jun-2000; LatestRevisionDate: 17-Dec-2003; LatestRevisionNote: PCB Footprint replaced.; DatasheetVersion: 16-Apr-2002; PackageVersion: 16-Apr-2002; PackageReference: 3.5X2.8X1.9; Publisher: Altium Limited
simulation model LED3 (Diode)
signal-integrity model LED
footprint 3.5X2.8X1.9 (SM LED; 2 C-Bend Leads; Body 3.5 x 2.8 x 1.9 mm, inc leads (LxWxH typ))
pins: 1 A, 2 K

## LED BI-COLOR
designator LED1, comment BI-CLR
footprint LED BI-COLOR
pins: 1, 2, 3

## LM1084
designator *
footprint LM1084
pins: 1 GND, 2 Vout, 3 Vin

## LP2986 VREG
designator *
footprint SOIC-8
pins: 1 GND (power), 2 FB (power), 3 TAP, 4 VIN (power), 5 VOUT, 6 SENS, 7 ERR (power), 8 STDWN (power)

## LSF0108
designator U1, comment LSF0108 LVL SHFTR
footprint SSOP20
pins: 1 GND (power), 2 Vref_A (power), 3 A1 (io), 4 A2 (io), 5 A3 (io), 6 A4 (io), 7 A5 (io), 8 A6 (io), 9 A7 (io), 10 A8 (io), 11 B8 (io), 12 B7 (io), 13 B6 (io), 14 B5 (io), 15 B4 (io), 16 B3 (io), 17 B2 (io), 18 B1 (io), 19 Vref_B (power), 20 EN (power)

## LSM6DS3US
designator U1
footprint LSM6DS3US
pins: 1 SD0/SA0 (in), 2 SDx (io), 3 SCx (in), 4 INT1 (out), 5 VDDIO (power), 6 GND (power), 7 GND (power), 8 VDD (power), 9 INT 2 (out), 10 N/C (hiz), 11 N/C (hiz), 12 CS (power), 13 SCL (power), 14 SDA (power)

## LSM303AGR
designator U1
footprint LSM303AGR
pins: 1 SCL (in), 2 CS_XL (in), 3 CS_MAG (in), 4 SDA (io), 5 C1, 6 GND (power), 7 INT_MAG/DRDY (out), 8 GND (power), 9 VDD (power), 10 VDD_IO (power), 11 INT_2_XL (out), 12 INT_1_XL (out)

## LSM303D
designator *
footprint LSM303D
pins: 1 VDD_IO (power), 2 SETC, 3 SETP, 4 SCL (in), 5 GND (power), 6 SDA (io), 7 SA0 (in), 8 MODE (in), 9 INT 2 (out), 10 RSVD, 11 INT 1 (out), 12 GND (power), 13 GND (power), 14 VDD (power), 15 C1, 16 GND (power)

## LV8406T
designator U1
footprint LV8406T
pins: 1 VG  (power), 2 VM1 (power), 3 OUT1 (out), 4 OUT2 (out), 5 PGND (power), 6 PGND (power), 7 OUT3 (out), 8 OUT4 (out), 9 VM2 (power), 10 IN4 (in), 11 IN3 (in), 12 EN2 (in), 13 VCC (power), 14 IN2 (in), 15 IN1 (in), 16 EN1 (in), 17 VS (power), 18 SGND (power), 19 C1L, 20 C1H

## MCP9700A
designator U1
footprint SC-70
pins: 1 N/C, 2 GND (power), 3 Vout (out), 4 Vcc (power), 5 N/C

## Meter
designator M?
Indicating Instrument; Note: Place a "letter" into the symbol to show the function of the meter or instrument; Published: 24-Mar-1999; LatestRevisionDate: 17-Jul-2002; LatestRevisionNote: Re-released for DXP Platform.; PackageReference: RAD-0.1; Publisher: Altium Limited
footprint RAD-0.1 (Radial Cap, Thru-Hole; 2 Leads; 0.1 in Pin Spacing)
pins: 1, 2

## MIC
designator S1, comment Microphone
footprint MICROPHONE
pins: 1, 2

## Mic1
designator MK?
Microphone; Published: 24-Mar-1999; LatestRevisionDate: 17-Jul-2002; LatestRevisionNote: Re-released for DXP Platform.; PackageReference: PIN2; Publisher: Altium Limited
footprint PIN2 (Microphone; 2 Leads)
pins: 1, 2

## MMBT2222A
designator *
footprint SOT-23
pins: 1 B, 2 E, 3 C

## MOSFET-N
designator Q?
N-Channel MOSFET; Published: 8-Jun-2000; LatestRevisionDate: 17-Jul-2002; LatestRevisionNote: Re-released for DXP Platform.; PackageVersion: 1995/1996; PackageReference: E3; Publisher: Altium Limited
simulation model NMOS (MOSFET-N)
footprint E3 (TO, Flat Index; 3 In-Line, Axial Leads; Body Dia. 4.6mm; Lead Dia. 0.5 mm (max))
footprint SOT-23 - FET
pins: 1 D, 2 G, 3 S

## MOSFET-P
designator Q?
P-Channel MOSFET; Published: 8-Jun-2000; LatestRevisionDate: 17-Jul-2002; LatestRevisionNote: Re-released for DXP Platform.; PackageVersion: 1995/1996; PackageReference: E3; Publisher: Altium Limited
simulation model PMOS (MOSFET-P)
footprint E3 (TO, Flat Index; 3 In-Line, Axial Leads; Body Dia. 4.6mm; Lead Dia. 0.5 mm (max))
footprint SOT-23 P-FET
pins: 1 D, 2 G, 3 S

## Motor
designator B?
Motor, General Kind; Published: 24-Mar-1999; LatestRevisionDate: 17-Jul-2002; LatestRevisionNote: Re-released for DXP Platform.; PackageReference: RB5-10.5; Publisher: Altium Limited
footprint RB5-10.5 (Motor, General Kind; 2 Leads)
pins: 1, 2
text: M

## Motor Servo
designator B?
Servo Motor; Published: 24-Mar-1999; LatestRevisionDate: 17-Jul-2002; LatestRevisionNote: Re-released for DXP Platform.; PackageReference: RAD-0.4; Publisher: Altium Limited
footprint RAD-0.4 (Radial Cap, Thru-Hole; 2 Leads; 0.4 in Pin Spacing)
pins: 1 +, 2 -
text: A

## Motor Step
designator B?
Motor Stepper; Published: 24-Mar-1999; LatestRevisionDate: 17-Jul-2002; LatestRevisionNote: Re-released for DXP Platform.; PackageReference: DIP-6; Publisher: Altium Limited; Code_JEDEC: MO-001-AM
footprint DIP-6 (DIP; 6 Leads; Row Spacing 7.62 mm; Pitch 2.54 mm)
pins: 1, 2, 3, 4, 5, 6
text: M

## MPU-6050
designator U1  (value not drawn)
MPU-6050 Accelerometer/Gyro combo
footprint MPU-6050
pins: 1 CLKIN, 2 N/C, 3 N/C, 4 N/C, 5 N/C, 6 AUX_DA, 7 AUX_CL, 8 VLOGIC, 9 AD0, 10 REGOUT, 11 FSYNC, 12 INT, 13 VDD, 14 N/C, 15 N/C, 16 N/C, 17 N/C, 18 GND, 19 RESV, 20 CPOUT, 21 RESV, 22 CLKOUT, 23 SCL, 24 SDA

## MPU-9250
designator U1  (value not drawn)
MPU-9250 Accelerometer/Gyro/compass combo
footprint QFN-24-3MM
pins: 1 RESV, 2 N/C, 3 N/C, 4 N/C, 5 N/C, 6 N/C, 7 AUX_CL, 8 VDDIO, 9 AD0, 10 REGOUT, 11 FSYNC, 12 INT, 13 VDD, 14 N/C, 15 N/C, 16 N/C, 17 N/C, 18 GND, 19 RESV, 20 RESV, 21 AUX_DA, 22 nCS, 23 SCL, 24 SDA

## NCP1420
designator *
footprint SOT-25
pins: 1 CE, 2 OUT (power), 3 NC (power), 4 GND (power), 5 LX (power)

## NPN
designator Q?
NPN Bipolar Transistor; Published: 8-Jun-2000; LatestRevisionDate: 17-Jul-2002; LatestRevisionNote: Re-released for DXP Platform.; PackageReference: TO-226; Publisher: Altium Limited; Code_JEDEC: TO-226-AA
simulation model NPN
signal-integrity model NPN
footprint TO-262-AA (TO, Thru-Hole, Vertical, Heatsink Mounted; 3 In-Line Leads; Pitch 2.54 mm)
footprint MMBT3904
footprint TO92 - 2N3904
pins: 1 C, 2 B, 3 E

## NPN1
designator Q?
NPN Darlington Bipolar Transistor; Published: 8-Jun-2000; LatestRevisionDate: 17-Jul-2002; LatestRevisionNote: Re-released for DXP Platform.; DatasheetVersion: 1989; PackageVersion: 1989; PackageReference: TO-92; Publisher: Altium Limited; Code_JEDEC: TO-92
simulation model NPN1 (Spice Subcircuit)
signal-integrity model NPN
footprint TO92 - 2N3904
pins: 1 C, 2 B, 3 E

## Op Amp
designator AR?
FET Operational Amplifier; Published: 8-Jun-2000; LatestRevisionDate: 17-Jul-2002; LatestRevisionNote: Re-released for DXP Platform.; DatasheetVersion: REV. B; PackageReference: H-08A; Publisher: Altium Limited; ComponentLink1Description: Manufacturer Link; ComponentLink1URL: http://www.analog.com/
simulation model AD645A (Spice Subcircuit)
footprint H-08A (Can; 8 Leads; Pin Circle Dia. 5.08 mm; Lead Dia. 0.53 mm (max))
pins: 1 OS NUL, 2 IN- (in), 3 IN+ (in), 4 V- (power), 5 OS NUL, 6 OUT (out), 7 V+ (power), 8 TAB

## OPA345
designator U1
footprint SOT-23-5
pins: 1 OUT (out), 2 V- (power), 3 IN+ (in), 4 IN- (in), 5 V+ (power)

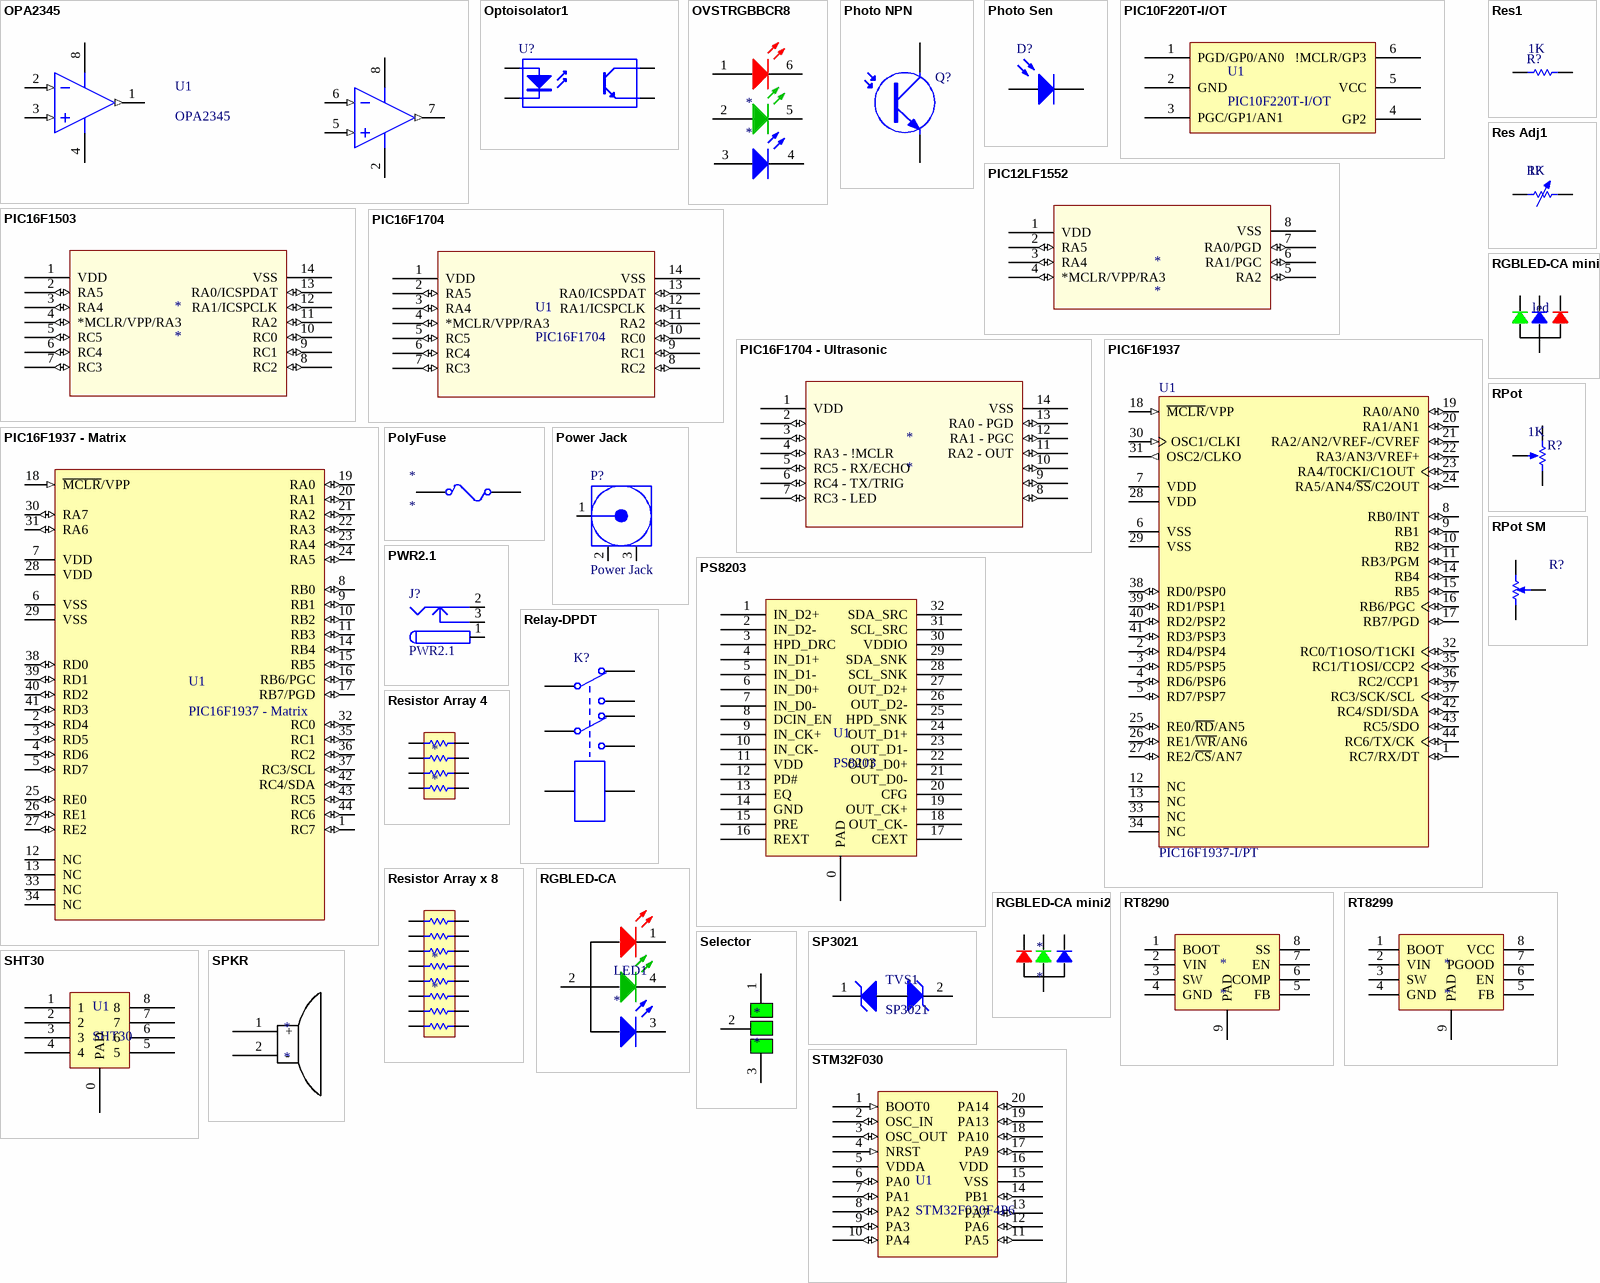
[diagram p3: symbols OPA2345 to STM32F030]

## OPA2345
designator U1
footprint SO-8
pins: 1 OUTA (out), 2 INA- (in), 2 4 (power), 3 INA+ (in), 4 V- (power), 5 INB+ (in), 6 INB- (in), 7 OUTB (out), 8 V+ (power), 8 V+ (power)

## Optoisolator1
designator U?
4-Pin Phototransistor Optocoupler; Published: 24-Mar-1999; LatestRevisionDate: 04-Mar-2005; LatestRevisionNote: Sch pins 3 & 4 Swapped.; DatasheetVersion: Nov-2003; PackageReference: DIP-4; Publisher: Altium Limited
footprint DIP-4 (DIP; 4 Leads; Row Spacing 7.62 mm; Pitch 2.54 mm)
footprint TCRT5000
pins: 1 A "Anode", 2 K "Cathode", 3 E "Emitter", 4 C "Collector"

## OVSTRGBBCR8
designator *
footprint OVSTRGBBCR8
pins: 1 A, 1 A, 1 A, 1, 2, 3, 4, 5, 6

## Photo NPN
designator Q?
NPN Phototransistor; Published: 24-Mar-1999; LatestRevisionDate: 17-Jul-2002; LatestRevisionNote: Re-released for DXP Platform.; PackageReference: TO-220_A; Publisher: Altium Limited; Code_JEDEC: TO-220-AC
footprint TO-220_A (TO, Thru-Hole, Vertical, Heatsink Mounted; 3 In-Line Leads (1 Absent); Pitch 2.54 mm)
pins: 1 C, 3 E

## Photo Sen
designator D?
Photosensitive Diode; Published: 24-Mar-1999; LatestRevisionDate: 17-Jul-2002; LatestRevisionNote: Re-released for DXP Platform.; PackageReference: PIN2; Publisher: Altium Limited
footprint PIN2 (Photosensitive Diode; 2 Leads)
pins: 1 A, 2 K

## PIC10F220T-I/OT
designator U1
footprint SOT-23-6
pins: 1 PGD/GP0/AN0, 2 GND (power), 3 PGC/GP1/AN1, 4 GP2, 5 VCC (power), 6 !MCLR/GP3

## PIC12LF1552
designator *
footprint SSOP8
pins: 1 VDD (power), 2 RA5 (io), 3 RA4 (io), 4 *MCLR/VPP/RA3 (io), 5 RA2 (io), 6 RA1/PGC (io), 7 RA0/PGD (io), 8 VSS (power)

## PIC16F1503
designator *
footprint TSSOP14 (PIC16F1503)
pins: 1 VDD (power), 2 RA5 (io), 3 RA4 (io), 4 *MCLR/VPP/RA3 (io), 5 RC5 (io), 6 RC4 (io), 7 RC3 (io), 8 RC2 (io), 9 RC1 (io), 10 RC0 (io), 11 RA2 (io), 12 RA1/ICSPCLK (io), 13 RA0/ICSPDAT (io), 14 VSS (power)

## PIC16F1704
designator U1
footprint TSSOP14 (PIC16F1503)
pins: 1 VDD (power), 2 RA5 (io), 3 RA4 (io), 4 *MCLR/VPP/RA3 (io), 5 RC5 (io), 6 RC4 (io), 7 RC3 (io), 8 RC2 (io), 9 RC1 (io), 10 RC0 (io), 11 RA2 (io), 12 RA1/ICSPCLK (io), 13 RA0/ICSPDAT (io), 14 VSS (power)

## PIC16F1704 - Ultrasonic
designator *
footprint TSSOP14 (PIC16F1503)
pins: 1 VDD (power), 2 RA5 (io), 3 RA4 (io), 4 RA3 - !MCLR  (io), 5 RC5 - RX/ECHO (io), 6 RC4 - TX/TRIG (io), 7 RC3 - LED (io), 8 RC2 (io), 9 RC1 (io), 10 RC0 (io), 11 RA2 - OUT (io), 12 RA1 - PGC (io), 13 RA0 - PGD (io), 14 VSS (power)

## PIC16F1937
designator U1, comment PIC16F1937-I/PT
Enhanced FLASH Microcontroller, 8K (x14-Bit words) FLASH, 368 Bytes RAM, 44-Pin TQFP, Standard VDD Range, Industrial Temperature, Tape and Reel; ComponentAvailability: Unknown. Contact manufacturer to determine status.; Published: 11-Oct-2004; LatestRevisionDate: 29-Jan-2009; LatestRevisionNote: Sch. layout revised. 3D Model Removed.; DatasheetVersion: revB, Oct-2003; PackageVersion: revBB, Aug-2009; PackageReference: TQFP-PT44; Publisher: Altium Limited; PackageDescription: 44-Lead Plastic Thin Quad Flatpack (PT) - 10x10x1mm Body, 2.00mm [TQFP]; Supplier 1: Digi-Key; Supplier Part Number 1: PIC16F877AT-I/PT-ND; Code_JEDEC: MS-026; ComponentLink1Description: Datasheet; ComponentLink1URL: http://ww1.microchip.com/downloads/en/DeviceDoc/39582b.pdf; ComponentLink2Description: Packaging Specification; ComponentLink2URL: http://www.microchip.com/stellent/groups/techpub_sg/documents/packagingspec/en012702.pdf; ComponentLink3Description: Microchip.com Home; ComponentLink3URL: http://www.microchip.com/
footprint TQFP-PT44_M
pins: 1 RC7/RX/DT (io), 2 RD4/PSP4 (io), 3 RD5/PSP5 (io), 4 RD6/PSP6 (io), 5 RD7/PSP7 (io), 6 VSS (power), 7 VDD (power), 8 RB0/INT (io), 9 RB1 (io), 10 RB2 (io), 11 RB3/PGM (io), 12 NC, 13 NC, 14 RB4 (io), 15 RB5 (io), 16 RB6/PGC (io), 17 RB7/PGD (io), 18 ~{MCLR}/VPP (in), 19 RA0/AN0 (io), 20 RA1/AN1 (io), 21 RA2/AN2/VREF-/CVREF (io), 22 RA3/AN3/VREF+ (io), 23 RA4/T0CKI/C1OUT (io), 24 RA5/AN4/~{SS}/C2OUT (io), 25 RE0/~{RD}/AN5 (io), 26 RE1/~{WR}/AN6 (io), 27 RE2/~{CS}/AN7 (io), 28 VDD (power), 29 VSS (power), 30 OSC1/CLKI (in), 31 OSC2/CLKO (out), 32 RC0/T1OSO/T1CKI (io), 33 NC, 34 NC, 35 RC1/T1OSI/CCP2 (io), 36 RC2/CCP1 (io), 37 RC3/SCK/SCL (io), 38 RD0/PSP0 (io), 39 RD1/PSP1 (io), 40 RD2/PSP2 (io), 41 RD3/PSP3 (io), 42 RC4/SDI/SDA (io), 43 RC5/SDO (io), 44 RC6/TX/CK (io)

## PIC16F1937 - Matrix
designator U1
footprint TQFP-PT44_M
pins: 1 RC7 (io), 2 RD4 (io), 3 RD5 (io), 4 RD6 (io), 5 RD7 (io), 6 VSS (power), 7 VDD (power), 8 RB0 (io), 9 RB1 (io), 10 RB2 (io), 11 RB3 (io), 12 NC, 13 NC, 14 RB4 (io), 15 RB5 (io), 16 RB6/PGC (io), 17 RB7/PGD (io), 18 ~{MCLR}/VPP (in), 19 RA0 (io), 20 RA1 (io), 21 RA2 (io), 22 RA3 (io), 23 RA4 (io), 24 RA5 (io), 25 RE0 (io), 26 RE1 (io), 27 RE2 (io), 28 VDD (power), 29 VSS (power), 30 RA7 (io), 31 RA6 (io), 32 RC0 (io), 33 NC, 34 NC, 35 RC1 (io), 36 RC2 (io), 37 RC3/SCL (io), 38 RD0 (io), 39 RD1 (io), 40 RD2 (io), 41 RD3 (io), 42 RC4/SDA (io), 43 RC5 (io), 44 RC6 (io)

## PolyFuse
designator *
PTC .50A 15VDC RESETTABLE 1812L
footprint PTC-1812 (Littelfuse Polyfuse 1812 series)
pins: 1, 2

## Power Jack
designator P?
2.1mm Barrel Jack, 3 connector
footprint PWR2.1
footprint Power Jack 2
footprint PWR2.1 Orig
footprint Power Jack SMD
pins: 1 Tip (power), 2 P1 (power), 3 P2 (power)

## PS8203
designator U1
footprint PS8203
pins: 0 PAD, 1 IN_D2+, 2 IN_D2-, 3 HPD_DRC, 4 IN_D1+, 5 IN_D1-, 6 IN_D0+, 7 IN_D0-, 8 DCIN_EN, 9 IN_CK+, 10 IN_CK-, 11 VDD, 12 PD#, 13 EQ, 14 GND, 15 PRE, 16 REXT, 17 CEXT, 18 OUT_CK-, 19 OUT_CK+, 20 CFG, 21 OUT_D0-, 22 OUT_D0+, 23 OUT_D1-, 24 OUT_D1+, 25 HPD_SNK, 26 OUT_D2-, 27 OUT_D2+, 28 SCL_SNK, 29 SDA_SNK, 30 VDDIO, 31 SCL_SRC, 32 SDA_SRC

## PWR2.1
designator J?
Low Voltage Power Supply Connector; Published: 17-Dec-2003; DatasheetDocument: 09-May-2002; Publisher: Altium Limited; ComponentLink1Description: Manufacturer Link; ComponentLink1URL: http://domino.kycon.com/internet/Products.html
signal-integrity model Connector
footprint PWR2.1 (2.1mm slotted footprint)
pins: 1 (power), 1A (power), 1B (power), 2 (power), 2A (power), 2B (power), 3 (power), 3A (power), 3B (power)

## Relay-DPDT
designator K?
Dual-Pole Dual-Throw Relay; Published: 24-Mar-1999; LatestRevisionDate: 17-Jul-2002; LatestRevisionNote: Re-released for DXP Platform.; PackageReference: DIP-P8; Publisher: Altium Limited
footprint DIP-P8 (Dual-Pole Dual-Throw Relay; 8 Leads)
simulation model DPDTRELAY (Spice Subcircuit)
pins: 1, 2, 3, 4, 5, 6, 7, 8

## Res1
designator R?  value 1K
Resistor; Published: 8-Jun-2000; LatestRevisionDate: 17-Jul-2002; LatestRevisionNote: Re-released for DXP Platform.; PackageReference: AXIAL-0.3; Publisher: Altium Limited
footprint AXIAL-0.3 (Axial Device, Thru-Hole; 2 Leads; 0.3 in Pin Spacing)
simulation model RESISTOR (Resistor)
signal-integrity model Res
footprint 0603
footprint 0805
footprint 0603 TIGHT
footprint 0805 TIGHT
pins: 1, 2

## Res Adj1
designator R?  value 1K
Variable Resistor; Set Position: 0.5; Published: 8-Jun-2000; LatestRevisionDate: 17-Jul-2002; LatestRevisionNote: Re-released for DXP Platform.; PackageReference: AXIAL-0.7; Publisher: Altium Limited
footprint AXIAL-0.7 (Axial Device, Thru-Hole; 2 Leads; 0.7 in Pin Spacing)
simulation model VRES (Variable Resistor)
signal-integrity model Res Adj
pins: 1, 2

## Resistor Array 4
designator *
footprint Resistor Array 4
pins: 1, 2, 3, 4, 5, 6, 7, 8

## Resistor Array x 8
designator *
footprint Resistor Array x 8
pins: 1, 2, 3, 4, 5, 6, 7, 8, 9, 10, 11, 12, 13, 14, 15, 16

## RGBLED-CA
designator LED1
footprint RGBLED-CA
pins: 1, 2, 3, 4

## RGBLED-CA mini
designator led  (value not drawn)
footprint RGB-CA 0603
pins: 1, 2, 3, 4

## RGBLED-CA mini2
designator *
footprint RGB-CA 0603
pins: 1, 2, 3, 4

## RPot
designator R?  value 1K
Potentiometer; Sim Note: Enter the Resistance value and the set point into parameter fields.; Set Position: 0.5; Published: 8-Jun-2000; LatestRevisionDate: 17-Jul-2002; LatestRevisionNote: Re-released for DXP Platform.; PackageReference: VR5; Publisher: Altium Limited
footprint VR5 (Variable Resistor, Thru-Hole; 3 Leads)
simulation model POT (Potentiometer)
pins: 1 TOP, 2 BOT, 3 TAP
1 alternate drawing of the same symbol

## RPot SM
designator R?
Square Trimming Potentiometer; Published: 17-Dec-2003; DatasheetVersion: Oct-2003; PackageReference: POT4MM-2; Publisher: Altium Limited; ComponentLink1Description: Manufacturer Link; ComponentLink1URL: http://bourns.com/2/search.html
footprint POT4MM-2 (Square Trimming Potentiometer)
pins: CCW -, CW +, W
1 alternate drawing of the same symbol

## RT8290
designator *
footprint SOIC-8 w/ PAD (Similar to SO-8 but with PAD)
pins: 1 BOOT (power), 2 VIN (power), 3 SW, 4 GND (power), 5 FB, 6 COMP, 7 EN (power), 8 SS (power), 9 PAD

## RT8299
designator *
footprint SOIC-8 w/ PAD (Similar to SO-8 but with PAD)
footprint SOP-8 (Similar to SO-8 but with PAD)
pins: 1 BOOT (power), 2 VIN (power), 3 SW, 4 GND (power), 5 FB, 6 EN, 7 PGOOD (power), 8 VCC (power), 9 PAD

## Selector
designator *
footprint Solder Pad
pins: 1 AD1, 2 IN, 3 AD0

## SHT30
designator U1
footprint SHT30
pins: 0 PAD, 1, 2, 3, 4, 5, 6, 7, 8

## SP3021
designator TVS1
footprint SP3021
pins: 1, 2

## SPKR
designator *
footprint SIP2
pins: 1 +, 2 -

## STM32F030
designator U1, comment STM32F030F4P6
footprint SSOP20
pins: 1 BOOT0 (in), 2 OSC_IN (io), 3 OSC_OUT (io), 4 NRST (in), 5 VDDA (power), 6 PA0 (io), 7 PA1 (io), 8 PA2 (io), 9 PA3 (io), 10 PA4 (io), 11 PA5 (io), 12 PA6 (io), 13 PA7 (io), 14 PB1 (io), 15 VSS (power), 16 VDD (power), 17 PA9 (io), 18 PA10 (io), 19 PA13 (io), 20 PA14 (io)

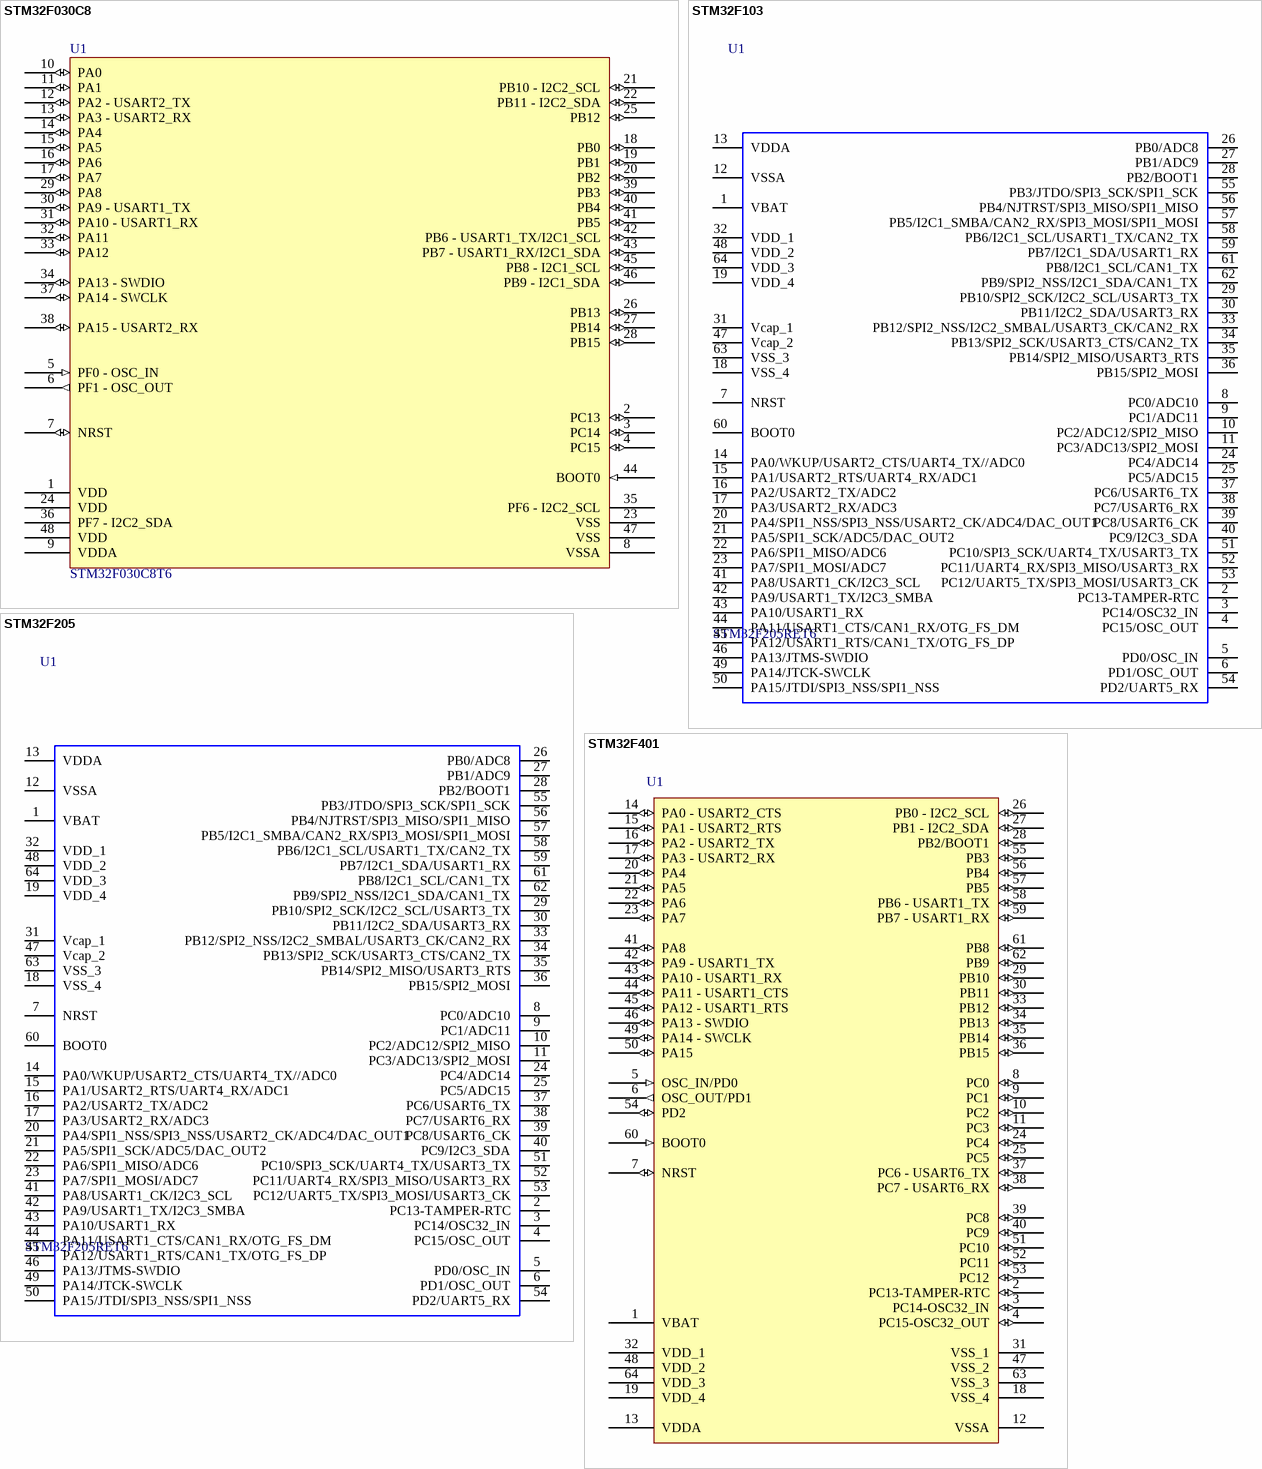
[diagram p4: symbols STM32F030C8 to STM32F401]

## STM32F030C8
designator U1, comment STM32F030C8T6
footprint LQFP48_M (Thin QFP, 48-Leads, Body 7x7mm, Pitch 0.5mm, IPC Low Density)
pins: 1 VDD (power), 2 PC13 (io), 3 PC14 (io), 4 PC15 (io), 5 PF0 - OSC_IN (in), 6 PF1 - OSC_OUT (out), 7 NRST (io), 8 VSSA (power), 9 VDDA (power), 10 PA0 (io), 11 PA1 (io), 12 PA2 - USART2_TX (io), 13 PA3 - USART2_RX (io), 14 PA4 (io), 15 PA5 (io), 16 PA6 (io), 17 PA7 (io), 18 PB0 (io), 19 PB1 (io), 20 PB2 (io), 21 PB10 - I2C2_SCL (io), 22 PB11 - I2C2_SDA (io), 23 VSS (power), 24 VDD (power), 25 PB12 (io), 26 PB13 (io), 27 PB14 (io), 28 PB15 (io), 29 PA8 (io), 30 PA9 - USART1_TX (io), 31 PA10 - USART1_RX (io), 32 PA11 (io), 33 PA12 (io), 34 PA13 - SWDIO (io), 35 PF6 - I2C2_SCL (power), 36 PF7 - I2C2_SDA (power), 37 PA14 - SWCLK (io), 38 PA15 - USART2_RX (io), 39 PB3 (io), 40 PB4 (io), 41 PB5 (io), 42 PB6 - USART1_TX/I2C1_SCL (io), 43 PB7 - USART1_RX/I2C1_SDA (io), 44 BOOT0 (in), 45 PB8 - I2C1_SCL (io), 46 PB9 - I2C1_SDA (io), 47 VSS (power), 48 VDD (power)

## STM32F103
designator U1, comment STM32F205RET6
footprint LQFP64_M (Thin QFP, 64-Leads, Body 10x10mm, Pitch 0.5mm, IPC Low Density)
pins: 1 VBAT, 2 PC13-TAMPER-RTC, 3 PC14/OSC32_IN, 4 PC15/OSC_OUT, 5 PD0/OSC_IN, 6 PD1/OSC_OUT, 7 NRST, 8 PC0/ADC10, 9 PC1/ADC11, 10 PC2/ADC12/SPI2_MISO, 11 PC3/ADC13/SPI2_MOSI, 12 VSSA, 13 VDDA, 14 PA0/WKUP/USART2_CTS/UART4_TX//ADC0, 15 PA1/USART2_RTS/UART4_RX/ADC1, 16 PA2/USART2_TX/ADC2, 17 PA3/USART2_RX/ADC3, 18 VSS_4, 19 VDD_4, 20 PA4/SPI1_NSS/SPI3_NSS/USART2_CK/ADC4/DAC_OUT1, 21 PA5/SPI1_SCK/ADC5/DAC_OUT2, 22 PA6/SPI1_MISO/ADC6, 23 PA7/SPI1_MOSI/ADC7, 24 PC4/ADC14, 25 PC5/ADC15, 26 PB0/ADC8, 27 PB1/ADC9, 28 PB2/BOOT1, 29 PB10/SPI2_SCK/I2C2_SCL/USART3_TX, 30 PB11/I2C2_SDA/USART3_RX, 31 Vcap_1, 32 VDD_1, 33 PB12/SPI2_NSS/I2C2_SMBAL/USART3_CK/CAN2_RX, 34 PB13/SPI2_SCK/USART3_CTS/CAN2_TX, 35 PB14/SPI2_MISO/USART3_RTS, 36 PB15/SPI2_MOSI, 37 PC6/USART6_TX, 38 PC7/USART6_RX, 39 PC8/USART6_CK, 40 PC9/I2C3_SDA, 41 PA8/USART1_CK/I2C3_SCL, 42 PA9/USART1_TX/I2C3_SMBA, 43 PA10/USART1_RX, 44 PA11/USART1_CTS/CAN1_RX/OTG_FS_DM, 45 PA12/USART1_RTS/CAN1_TX/OTG_FS_DP, 46 PA13/JTMS-SWDIO, 47 Vcap_2, 48 VDD_2, 49 PA14/JTCK-SWCLK, 50 PA15/JTDI/SPI3_NSS/SPI1_NSS, 51 PC10/SPI3_SCK/UART4_TX/USART3_TX, 52 PC11/UART4_RX/SPI3_MISO/USART3_RX, 53 PC12/UART5_TX/SPI3_MOSI/USART3_CK, 54 PD2/UART5_RX, 55 PB3/JTDO/SPI3_SCK/SPI1_SCK, 56 PB4/NJTRST/SPI3_MISO/SPI1_MISO, 57 PB5/I2C1_SMBA/CAN2_RX/SPI3_MOSI/SPI1_MOSI, 58 PB6/I2C1_SCL/USART1_TX/CAN2_TX, 59 PB7/I2C1_SDA/USART1_RX, 60 BOOT0, 61 PB8/I2C1_SCL/CAN1_TX, 62 PB9/SPI2_NSS/I2C1_SDA/CAN1_TX, 63 VSS_3, 64 VDD_3

## STM32F205
designator U1, comment STM32F205RET6
footprint LQFP64_M (Thin QFP, 64-Leads, Body 10x10mm, Pitch 0.5mm, IPC Low Density)
pins: 1 VBAT, 2 PC13-TAMPER-RTC, 3 PC14/OSC32_IN, 4 PC15/OSC_OUT, 5 PD0/OSC_IN, 6 PD1/OSC_OUT, 7 NRST, 8 PC0/ADC10, 9 PC1/ADC11, 10 PC2/ADC12/SPI2_MISO, 11 PC3/ADC13/SPI2_MOSI, 12 VSSA, 13 VDDA, 14 PA0/WKUP/USART2_CTS/UART4_TX//ADC0, 15 PA1/USART2_RTS/UART4_RX/ADC1, 16 PA2/USART2_TX/ADC2, 17 PA3/USART2_RX/ADC3, 18 VSS_4, 19 VDD_4, 20 PA4/SPI1_NSS/SPI3_NSS/USART2_CK/ADC4/DAC_OUT1, 21 PA5/SPI1_SCK/ADC5/DAC_OUT2, 22 PA6/SPI1_MISO/ADC6, 23 PA7/SPI1_MOSI/ADC7, 24 PC4/ADC14, 25 PC5/ADC15, 26 PB0/ADC8, 27 PB1/ADC9, 28 PB2/BOOT1, 29 PB10/SPI2_SCK/I2C2_SCL/USART3_TX, 30 PB11/I2C2_SDA/USART3_RX, 31 Vcap_1, 32 VDD_1, 33 PB12/SPI2_NSS/I2C2_SMBAL/USART3_CK/CAN2_RX, 34 PB13/SPI2_SCK/USART3_CTS/CAN2_TX, 35 PB14/SPI2_MISO/USART3_RTS, 36 PB15/SPI2_MOSI, 37 PC6/USART6_TX, 38 PC7/USART6_RX, 39 PC8/USART6_CK, 40 PC9/I2C3_SDA, 41 PA8/USART1_CK/I2C3_SCL, 42 PA9/USART1_TX/I2C3_SMBA, 43 PA10/USART1_RX, 44 PA11/USART1_CTS/CAN1_RX/OTG_FS_DM, 45 PA12/USART1_RTS/CAN1_TX/OTG_FS_DP, 46 PA13/JTMS-SWDIO, 47 Vcap_2, 48 VDD_2, 49 PA14/JTCK-SWCLK, 50 PA15/JTDI/SPI3_NSS/SPI1_NSS, 51 PC10/SPI3_SCK/UART4_TX/USART3_TX, 52 PC11/UART4_RX/SPI3_MISO/USART3_RX, 53 PC12/UART5_TX/SPI3_MOSI/USART3_CK, 54 PD2/UART5_RX, 55 PB3/JTDO/SPI3_SCK/SPI1_SCK, 56 PB4/NJTRST/SPI3_MISO/SPI1_MISO, 57 PB5/I2C1_SMBA/CAN2_RX/SPI3_MOSI/SPI1_MOSI, 58 PB6/I2C1_SCL/USART1_TX/CAN2_TX, 59 PB7/I2C1_SDA/USART1_RX, 60 BOOT0, 61 PB8/I2C1_SCL/CAN1_TX, 62 PB9/SPI2_NSS/I2C1_SDA/CAN1_TX, 63 VSS_3, 64 VDD_3

## STM32F401
designator U1
STM32 ARM MCU; Published: 30-May-2008; DatasheetVersion: rev6, Mar-2008; PackageVersion: Mar-2008; PackageReference: LQFP64; Publisher: Altium Limited; PackageDescription: 64-Pin Low-Profile Quad Flat Pack, 10 x 10 mm Body, 0.5 mm Pitch (LQFP64); ComponentLink1Description: Manufacturer Link; ComponentLink1URL: www.st.com/stm32; ComponentLink2Description: Datasheet; ComponentLink2URL: http://www.st.com/stonline/products/literature/ds/13587.pdf
footprint LQFP64_M (Thin QFP, 64-Leads, Body 10x10mm, Pitch 0.5mm, IPC Low Density)
pins: 1 VBAT (power), 2 PC13-TAMPER-RTC (io), 3 PC14-OSC32_IN (io), 4 PC15-OSC32_OUT (io), 5 OSC_IN/PD0 (in), 6 OSC_OUT/PD1 (out), 7 NRST (io), 8 PC0 (io), 9 PC1 (io), 10 PC2 (io), 11 PC3 (io), 12 VSSA (power), 13 VDDA (power), 14 PA0 - USART2_CTS (io), 15 PA1 - USART2_RTS (io), 16 PA2 - USART2_TX (io), 17 PA3 - USART2_RX (io), 18 VSS_4 (power), 19 VDD_4 (power), 20 PA4 (io), 21 PA5 (io), 22 PA6 (io), 23 PA7 (io), 24 PC4 (io), 25 PC5 (io), 26 PB0 - I2C2_SCL (io), 27 PB1 - I2C2_SDA (io), 28 PB2/BOOT1 (io), 29 PB10 (io), 30 PB11 (io), 31 VSS_1 (power), 32 VDD_1 (power), 33 PB12 (io), 34 PB13 (io), 35 PB14 (io), 36 PB15 (io), 37 PC6 - USART6_TX (io), 38 PC7 - USART6_RX (io), 39 PC8 (io), 40 PC9 (io), 41 PA8 (io), 42 PA9 - USART1_TX (io), 43 PA10 - USART1_RX (io), 44 PA11 - USART1_CTS (io), 45 PA12 - USART1_RTS (io), 46 PA13 - SWDIO (io), 47 VSS_2 (power), 48 VDD_2 (power), 49 PA14 - SWCLK (io), 50 PA15 (io), 51 PC10 (io), 52 PC11 (io), 53 PC12 (io), 54 PD2 (io), 55 PB3 (io), 56 PB4 (io), 57 PB5 (io), 58 PB6 - USART1_TX (io), 59 PB7 - USART1_RX (io), 60 BOOT0 (in), 61 PB8 (io), 62 PB9 (io), 63 VSS_3 (power), 64 VDD_3 (power)

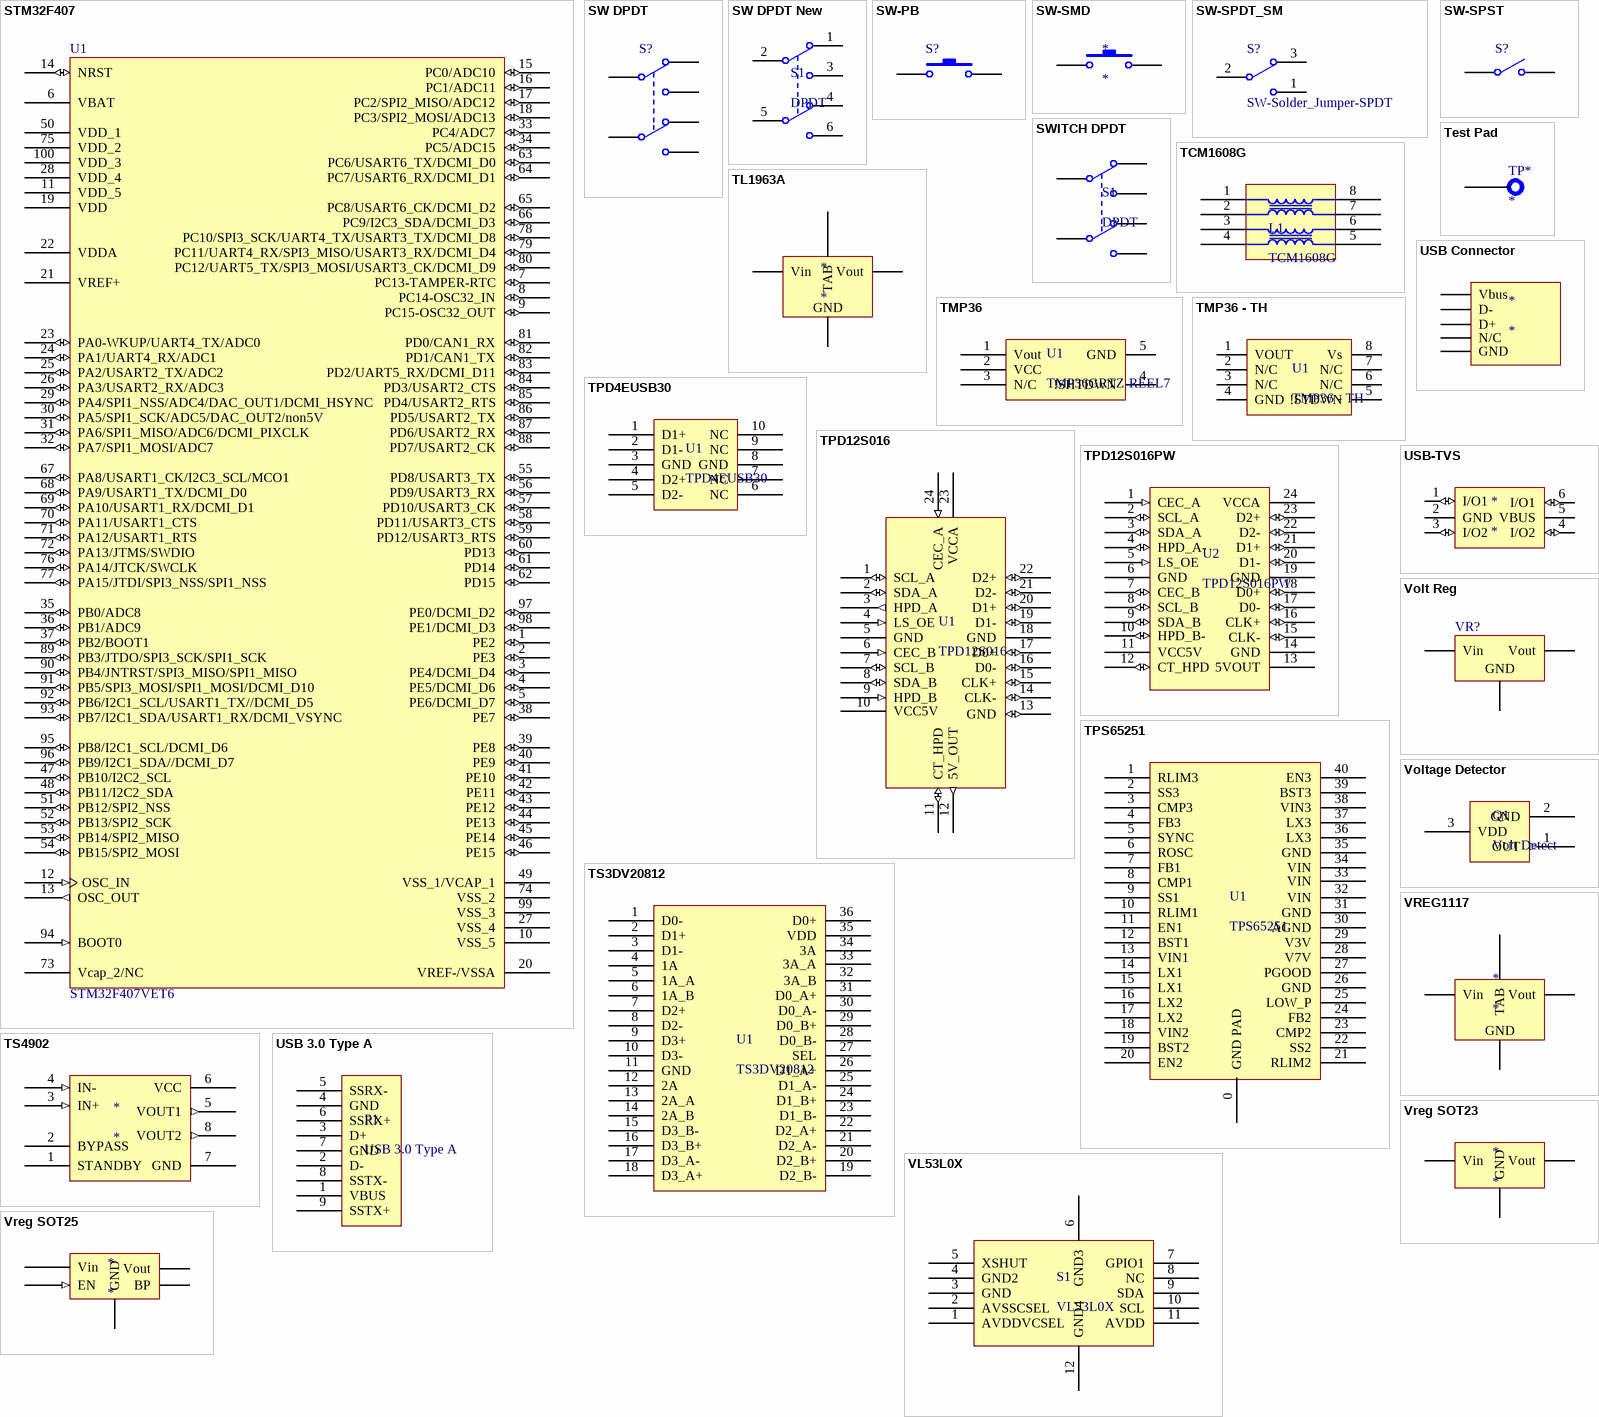
[diagram p5: symbols STM32F407 to Vreg SOT25]